# Altium integrated library Actel RTAX-S-SL.IntLib: 132 symbols (part 4 of 41)
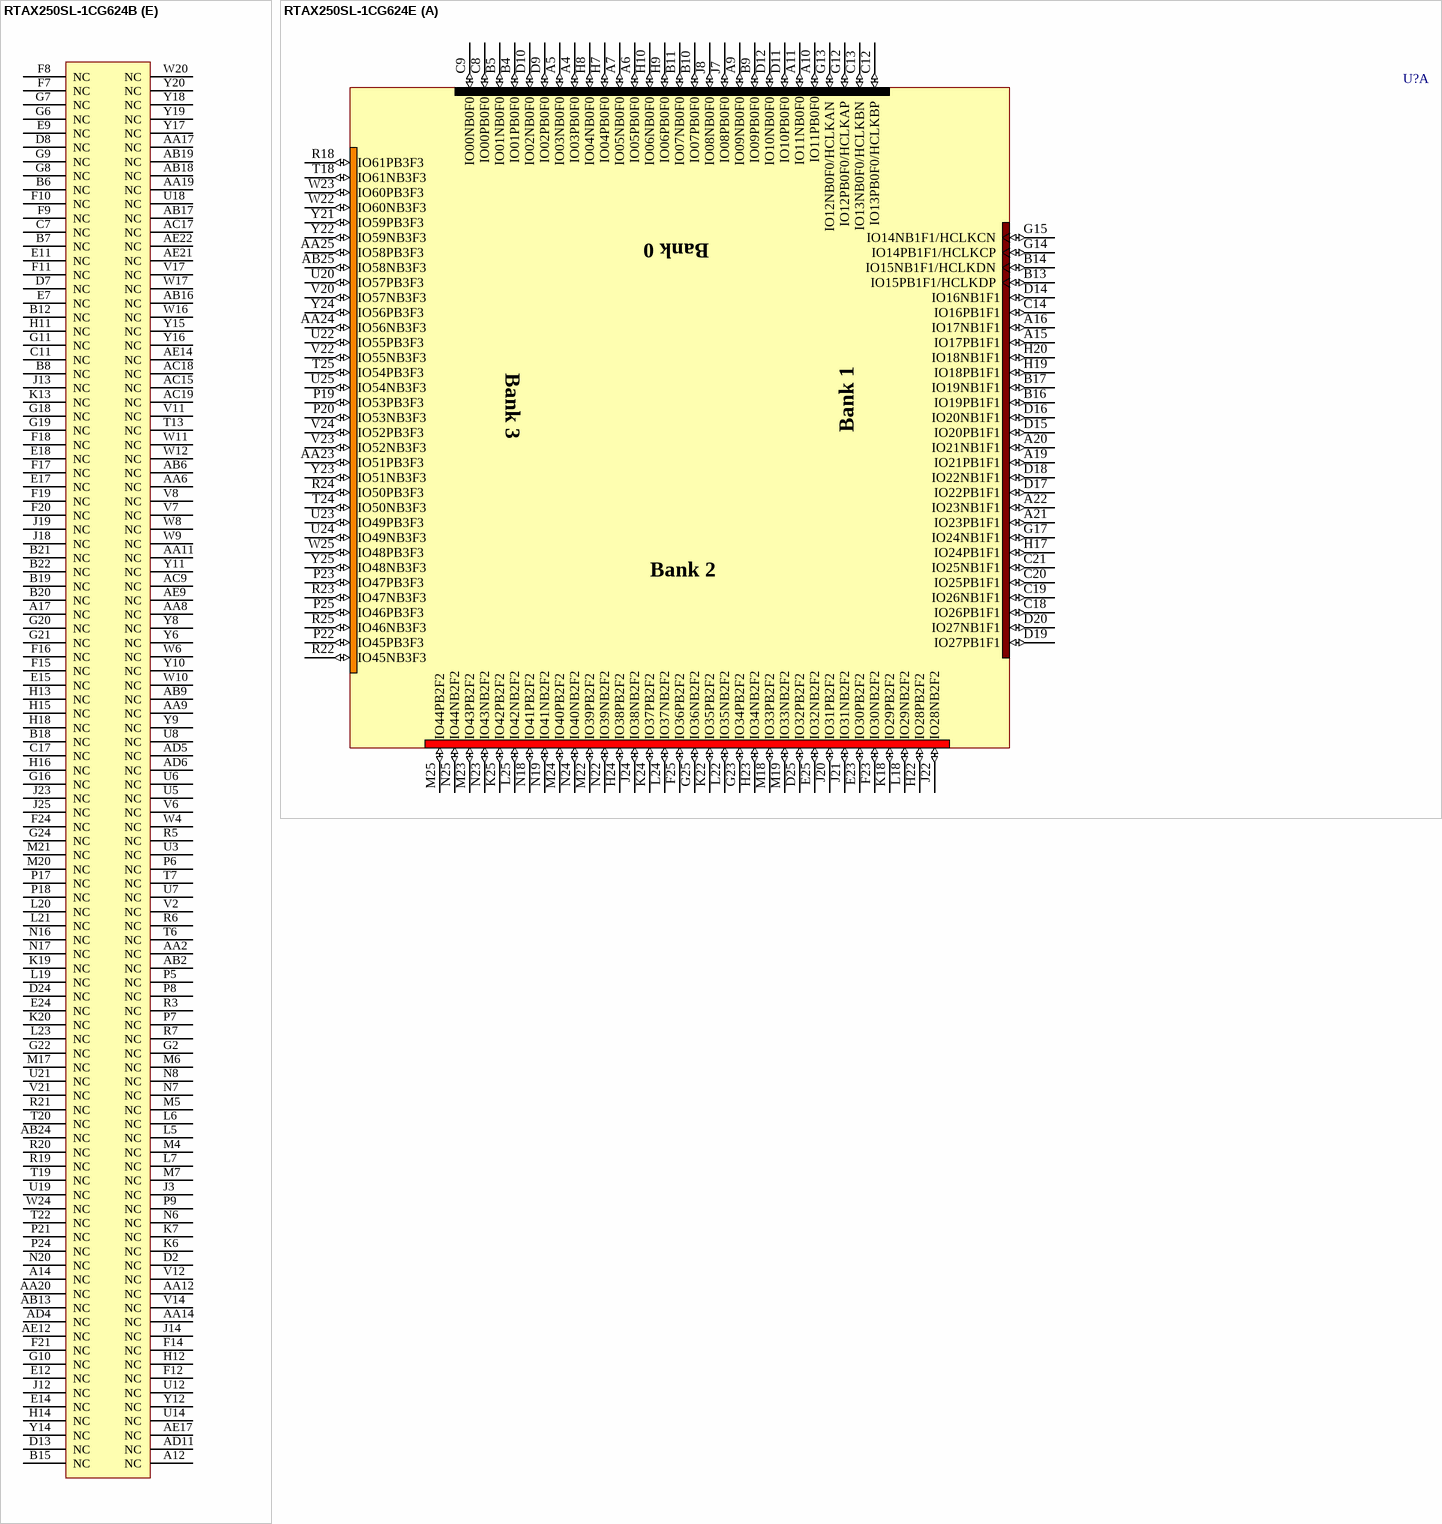
[diagram p382: symbols RTAX250SL-1CG624B to RTAX250SL-1CG624E]

## RTAX250SL-1CG624B
designator U?
RTAX-SL RadTolerant FPGA, 250K Equivalent System Gates, Low-Power, 624-Pin CCGA, Speed Grade 1, MIL-STD-883 Class B; Published: 11-Dec-2009; DatasheetVersion: v5.4, May-2009; PackageVersion: ver11.2, Nov-2009; PackageReference: CG624; Publisher: Altium Limited; PackageDescription: 624-Pin Ceramic Column Grid Array 1.27 mm Pitch; Code_JEDEC: MO-158-BE-01; ComponentLink1Description: RTAX-S/SL RadTolerant Datasheet; ComponentLink1URL: http://www.actel.com/documents/RTAXS_DS.pdf; ComponentLink2Description: Package Mechanical Drawings; ComponentLink2URL: http://www.actel.com/documents/PckgMechDrwngs.pdf; ComponentLink3Description: RTAX-S/SL RadTolerant Documents; ComponentLink3URL: http://www.actel.com/products/milaero/rtaxs/docs.aspx; ComponentLink4Description: Actel.com Home; ComponentLink4URL: http://www.actel.com/
footprint CG624 (CGA, 624-Leads, Body 32.5x32.5mm, Pitch 1.27mm)
part A pins: A4 IO03PB0F0 (io), A5 IO03NB0F0 (io), A6 IO05PB0F0 (io), A7 IO05NB0F0 (io), A9 IO09NB0F0 (io), A10 IO11PB0F0 (io), A11 IO11NB0F0 (io), A15 IO17PB1F1 (io), A16 IO17NB1F1 (io), A19 IO21PB1F1 (io), A20 IO21NB1F1 (io), A21 IO23PB1F1 (io), A22 IO23NB1F1 (io), AA23 IO51PB3F3 (io), AA24 IO56NB3F3 (io), AA25 IO58PB3F3 (io), AB25 IO58NB3F3 (io), B4 IO01PB0F0 (io), B5 IO01NB0F0 (io), B9 IO09PB0F0 (io), B10 IO07PB0F0 (io), B11 IO07NB0F0 (io), B13 IO15PB1F1/HCLKDP (io), B14 IO15NB1F1/HCLKDN (io), B16 IO19PB1F1 (io), B17 IO19NB1F1 (io), C8 IO00PB0F0 (io), C9 IO00NB0F0 (io), C12 IO13PB0F0/HCLKBP (io), C13 IO13NB0F0/HCLKBN (io), C14 IO16PB1F1 (io), C18 IO26PB1F1 (io), C19 IO26NB1F1 (io), C20 IO25PB1F1 (io), C21 IO25NB1F1 (io), D9 IO02PB0F0 (io), D10 IO02NB0F0 (io), D11 IO10PB0F0 (io), D12 IO10NB0F0 (io), D14 IO16NB1F1 (io), D15 IO20PB1F1 (io), D16 IO20NB1F1 (io), D17 IO22PB1F1 (io), D18 IO22NB1F1 (io), D19 IO27PB1F1 (io), D20 IO27NB1F1 (io), D25 IO32PB2F2 (io), E23 IO30PB2F2 (io), E25 IO32NB2F2 (io), F23 IO30NB2F2 (io), F25 IO36PB2F2 (io), G12 IO12PB0F0/HCLKAP (io), G13 IO12NB0F0/HCLKAN (io), G14 IO14PB1F1/HCLKCP (io), G15 IO14NB1F1/HCLKCN (io), G17 IO24NB1F1 (io), G23 IO34PB2F2 (io), G25 IO36NB2F2 (io), H7 IO04PB0F0 (io), H8 IO04NB0F0 (io), H9 IO06PB0F0 (io), H10 IO06NB0F0 (io), H17 IO24PB1F1 (io), H19 IO18PB1F1 (io), H20 IO18NB1F1 (io), H22 IO28PB2F2 (io), H23 IO34NB2F2 (io), H24 IO38PB2F2 (io), J7 IO08PB0F0 (io), J8 IO08NB0F0 (io), J20 IO31PB2F2 (io), J21 IO31NB2F2 (io), J22 IO28NB2F2 (io), J24 IO38NB2F2 (io), K18 IO29PB2F2 (io), K22 IO35PB2F2 (io), K24 IO37PB2F2 (io), K25 IO42PB2F2 (io), L18 IO29NB2F2 (io), L22 IO35NB2F2 (io), L24 IO37NB2F2 (io), L25 IO42NB2F2 (io), M18 IO33PB2F2 (io), M19 IO33NB2F2 (io), M22 IO39PB2F2 (io), M23 IO43PB2F2 (io), M24 IO40PB2F2 (io), M25 IO44PB2F2 (io), N18 IO41PB2F2 (io), N19 IO41NB2F2 (io), N22 IO39NB2F2 (io), N23 IO43NB2F2 (io), N24 IO40NB2F2 (io), N25 IO44NB2F2 (io), P19 IO53PB3F3 (io), P20 IO53NB3F3 (io), P22 IO45PB3F3 (io), P23 IO47PB3F3 (io), P25 IO46PB3F3 (io), R18 IO61PB3F3 (io), R22 IO45NB3F3 (io), R23 IO47NB3F3 (io), R24 IO50PB3F3 (io), R25 IO46NB3F3 (io), T18 IO61NB3F3 (io), T24 IO50NB3F3 (io), T25 IO54PB3F3 (io), U20 IO57PB3F3 (io), U22 IO55PB3F3 (io), U23 IO49PB3F3 (io), U24 IO49NB3F3 (io), U25 IO54NB3F3 (io), V20 IO57NB3F3 (io), V22 IO55NB3F3 (io), V23 IO52NB3F3 (io), V24 IO52PB3F3 (io), W22 IO60NB3F3 (io), W23 IO60PB3F3 (io), W25 IO48PB3F3 (io), Y21 IO59PB3F3 (io), Y22 IO59NB3F3 (io), Y23 IO51NB3F3 (io), Y24 IO56PB3F3 (io), Y25 IO48NB3F3 (io)
part B pins: AA1 IO92NB6F6 (io), AA3 IO90PB6F6 (io), AB1 IO92PB6F6 (io), AB7 IO89NB5F5 (io), AB8 IO84NB5F5 (io), AB10 IO82NB5F5 (io), AB11 IO82PB5F5 (io), AB14 IO70NB4F4 (io), AB15 IO70PB4F4 (io), AC5 IO87NB5F5 (io), AC6 IO87PB5F5 (io), AC7 IO89PB5F5 (io), AC8 IO84PB5F5 (io), AC12 IO77NB5F5/CLKHN (io), AC13 IO75NB4F4/CLKFN (io), AC14 IO66PB4F4 (io), AC20 IO65NB4F4 (io), AC21 IO65PB4F4 (io), AD7 IO81NB5F5 (io), AD8 IO81PB5F5 (io), AD9 IO79NB5F5 (io), AD10 IO79PB5F5 (io), AD12 IO77PB5F5/CLKHP (io), AD13 IO75PB4F4/CLKFP (io), AD14 IO66NB4F4 (io), AD15 IO68NB4F4 (io), AD16 IO68PB4F4 (io), AD17 IO71NB4F4 (io), AD18 IO71PB4F4 (io), AD19 IO69NB4F4 (io), AD20 IO69PB4F4 (io), AD21 IO67NB4F4 (io), AD22 IO67PB4F4 (io), AE4 IO85NB5F5 (io), AE5 IO85PB5F5 (io), AE6 IO83NB5F5 (io), AE7 IO83PB5F5 (io), AE10 IO78NB5F5 (io), AE11 IO78PB5F5 (io), AE15 IO73NB4F4 (io), AE16 IO73PB4F4 (io), AE19 IO63NB4F4 (io), AE20 IO63PB4F4 (io), D1 IO120NB7F7 (io), E1 IO120PB7F7 (io), E2 IO118NB7F7 (io), E3 IO121PB7F7 (io), F1 IO114NB7F7 (io), F2 IO118PB7F7 (io), F3 IO121NB7F7 (io), G1 IO114PB7F7 (io), G3 IO122PB7F7 (io), G4 IO122NB7F7 (io), H2 IO116PB7F7 (io), H3 IO116NB7F7 (io), H4 IO107NB7F7 (io), H5 IO123NB7F7 (io), H6 IO123PB7F7 (io), J1 IO110PB7F7 (io), J2 IO110NB7F7 (io), J4 IO107PB7F7 (io), J5 IO115PB7F7 (io), J6 IO115NB7F7 (io), K1 IO108NB7F7 (io), K2 IO112NB7F7 (io), K4 IO117NB7F7 (io), K8 IO113NB7F7 (io), L1 IO108PB7F7 (io), L2 IO112PB7F7 (io), L3 IO109NB7F7 (io), L4 IO117PB7F7 (io), L8 IO113PB7F7 (io), M1 IO106NB6F6 (io), M2 IO105NB6F6 (io), M3 IO109PB7F7 (io), M8 IO119PB7F7 (io), M9 IO119NB7F7 (io), N1 IO106PB6F6 (io), N2 IO105PB6F6 (io), N3 IO99NB6F6 (io), N4 IO101NB6F6 (io), N9 IO111PB7F7 (io), N10 IO111NB7F7 (io), P1 IO104NB6F6 (io), P2 IO102NB6F6 (io), P3 IO99PB6F6 (io), P4 IO101PB6F6 (io), R1 IO104PB6F6 (io), R2 IO102PB6F6 (io), R4 IO95NB6F6 (io), R8 IO103NB6F6 (io), T1 IO100NB6F6 (io), T2 IO98NB6F6 (io), T4 IO95PB6F6 (io), T8 IO103PB6F6 (io), U1 IO100PB6F6 (io), U2 IO98PB6F6 (io), U4 IO91NB6F6 (io), U13 IO86NB5F5 (io), V3 IO94NB6F6 (io), V4 IO91PB6F6 (io), V9 IO80NB5F5 (io), V10 IO80PB5F5 (io), V13 IO86PB5F5 (io), V15 IO72NB4F4 (io), V16 IO72PB4F4 (io), V18 IO64PB4F4 (io), V19 IO62NB4F4 (io), W1 IO96NB6F6 (io), W2 IO93NB6F6 (io), W3 IO94PB6F6 (io), W5 IO97PB6F6 (io), W7 IO88PB5F5 (io), W13 IO76NB5F5/CLKGN (io), W14 IO74NB4F4/CLKEN (io), W15 IO74PB4F4/CLKEP (io), W18 IO64NB4F4 (io), W19 IO62PB4F4 (io), Y1 IO96PB6F6 (io), Y2 IO93PB6F6 (io), Y3 IO90NB6F6 (io), Y5 IO97NB6F6 (io), Y7 IO88NB5F5 (io), Y13 IO76PB5F5/CLKGP (io)
part C pins: A3 VCCIB0 (power), A13 PRB (out), A23 VCCIB1 (power), AA4 VCCIB6 (power), AA7 VCCDA (power), AA13 VCCDA (power), AA15 VCCDA (power), AA22 VCCIB3 (power), AB3 VCCIB6 (power), AB5 VCCIB5 (power), AB12 PRC (out), AB20 VCCA (power), AB21 VCCIB4 (power), AB23 VCCIB3 (power), AC1 VCCIB6 (power), AC2 VCCIB6 (power), AC4 VCCIB5 (power), AC11 VCCDA (power), AC22 VCCIB4 (power), AC24 VCCIB3 (power), AC25 VCCIB3 (power), AD3 VCCIB5 (power), AD23 VCCIB4 (power), AE3 VCCIB5 (power), AE13 PRD (out), AE23 VCCIB4 (power), B3 VCCIB0 (power), B23 VCCIB1 (power), C1 VCCIB7 (power), C2 VCCIB7 (power), C4 VCCIB0 (power), C5 TDI (in), C6 VCCDA (power), C15 VCCDA (power), C22 VCCIB1 (power), C24 VCCIB2 (power), C25 VCCIB2 (power), D3 VCCIB7 (power), D5 VCCIB0 (power), D6 TMS (in), D21 VCCIB1 (power), D23 VCCIB2 (power), E4 VCCIB7 (power), E6 ~{TRST} (in), E13 VCCDA (power), E19 VCCDA (power), E20 VPUMP (power), E22 VCCIB2 (power), F4 VCCA (power), F5 TCK (in), F6 TDO (hiz), F13 PRA (out), F22 VCCA (power), G5 VCCDA (power), J9 VCCA (power), J10 VCCIB0 (power), J11 VCCIB0 (power), J15 VCCIB1 (power), J16 VCCIB1 (power), J17 VCCA (power), K9 VCCIB7 (power), K10 VCCA (power), K11 VCCA (power), K12 VCCIB0 (power), K14 VCCIB1 (power), K15 VCCA (power), K16 VCCA (power), K17 VCCIB2 (power), L9 VCCIB7 (power), L10 VCCA (power), L16 VCCA (power), L17 VCCIB2 (power), M10 VCCIB7 (power), M16 VCCIB2 (power), N5 VCCDA (power), N21 VCCDA (power), P10 VCCIB6 (power), P16 VCCIB3 (power), R9 VCCIB6 (power), R10 VCCA (power), R16 VCCA (power), R17 VCCIB3 (power), T9 VCCIB6 (power), T10 VCCA (power), T11 VCCA (power), T12 VCCIB5 (power), T14 VCCIB4 (power), T15 VCCA (power), T16 VCCA (power), T17 VCCIB3 (power), U9 VCCA (power), U10 VCCIB5 (power), U11 VCCIB5 (power), U15 VCCIB4 (power), U16 VCCIB4 (power), U17 VCCA (power), W21 VCCDA (power), Y4 VCCA (power)
part D pins: A2 GND (power), A8 GND (power), A18 GND (power), A24 GND (power), A25 GND (power), AA5 GND (power), AA10 GND (power), AA16 GND (power), AA18 GND (power), AA21 GND (power), AB4 GND (power), AB22 GND (power), AC3 GND (power), AC10 GND (power), AC16 GND (power), AC23 GND (power), AD1 GND (power), AD2 GND (power), AD24 GND (power), AD25 GND (power), AE1 GND (power), AE2 GND (power), AE8 GND (power), AE18 GND (power), AE24 GND (power), AE25 GND (power), B1 GND (power), B2 GND (power), B24 GND (power), B25 GND (power), C3 GND (power), C10 GND (power), C16 GND (power), C23 GND (power), D4 GND (power), D22 GND (power), E5 GND (power), E8 GND (power), E10 GND (power), E16 GND (power), E21 GND (power), H1 GND (power), H21 GND (power), H25 GND (power), K3 GND (power), K5 GND (power), K21 GND (power), K23 GND (power), L11 GND (power), L12 GND (power), L13 GND (power), L14 GND (power), L15 GND (power), M11 GND (power), M12 GND (power), M13 GND (power), M14 GND (power), M15 GND (power), N11 GND (power), N12 GND (power), N13 GND (power), N14 GND (power), N15 GND (power), P11 GND (power), P12 GND (power), P13 GND (power), P14 GND (power), P15 GND (power), R11 GND (power), R12 GND (power), R13 GND (power), R14 GND (power), R15 GND (power), T3 GND (power), T5 GND (power), T21 GND (power), T23 GND (power), V1 GND (power), V5 GND (power), V25 GND (power)
part E pins: A12 NC, A14 NC, A17 NC, AA2 NC, AA6 NC, AA8 NC, AA9 NC, AA11 NC, AA12 NC, AA14 NC, AA17 NC, AA19 NC, AA20 NC, AB2 NC, AB6 NC, AB9 NC, AB13 NC, AB16 NC, AB17 NC, AB18 NC, AB19 NC, AB24 NC, AC9 NC, AC15 NC, AC17 NC, AC18 NC, AC19 NC, AD4 NC, AD5 NC, AD6 NC, AD11 NC, AE9 NC, AE12 NC, AE14 NC, AE17 NC, AE21 NC, AE22 NC, B6 NC, B7 NC, B8 NC, B12 NC, B15 NC, B18 NC, B19 NC, B20 NC, B21 NC, B22 NC, C7 NC, C11 NC, C17 NC, D2 NC, D7 NC, D8 NC, D13 NC, D24 NC, E7 NC, E9 NC, E11 NC, E12 NC, E14 NC, E15 NC, E17 NC, E18 NC, E24 NC, F7 NC, F8 NC, F9 NC, F10 NC, F11 NC, F12 NC, F14 NC, F15 NC, F16 NC, F17 NC, F18 NC, F19 NC, F20 NC, F21 NC, F24 NC, G2 NC, G6 NC, G7 NC, G8 NC, G9 NC, G10 NC, G11 NC, G16 NC, G18 NC, G19 NC, G20 NC, G21 NC, G22 NC, G24 NC, H11 NC, H12 NC, H13 NC, H14 NC, H15 NC, H16 NC, H18 NC, J3 NC, J12 NC, J13 NC, J14 NC, J18 NC, J19 NC, J23 NC, J25 NC, K6 NC, K7 NC, K13 NC, K19 NC, K20 NC, L5 NC, L6 NC, L7 NC, L19 NC, L20 NC, L21 NC, L23 NC, M4 NC, M5 NC, M6 NC, M7 NC, M17 NC, M20 NC, M21 NC, N6 NC, N7 NC, N8 NC, N16 NC, N17 NC, N20 NC, P5 NC, P6 NC, P7 NC, P8 NC, P9 NC, P17 NC, P18 NC, P21 NC, P24 NC, R3 NC, R5 NC, R6 NC, R7 NC, R19 NC, R20 NC, R21 NC, T6 NC, T7 NC, T13 NC, T19 NC, T20 NC, T22 NC, U3 NC, U5 NC, U6 NC, U7 NC, U8 NC, U12 NC, U14 NC, U18 NC, U19 NC, U21 NC, V2 NC, V6 NC, V7 NC, V8 NC, V11 NC, V12 NC, V14 NC, V17 NC, V21 NC, W4 NC, W6 NC, W8 NC, W9 NC, W10 NC, W11 NC, W12 NC, W16 NC, W17 NC, W20 NC, W24 NC, Y6 NC, Y8 NC, Y9 NC, Y10 NC, Y11 NC, Y12 NC, Y14 NC, Y15 NC, Y16 NC, Y17 NC, Y18 NC, Y19 NC, Y20 NC
part A text: Bank 0; Bank 3; Bank 1; Bank 2
part B text: Bank 4; Bank 7; Bank 5; Bank 6

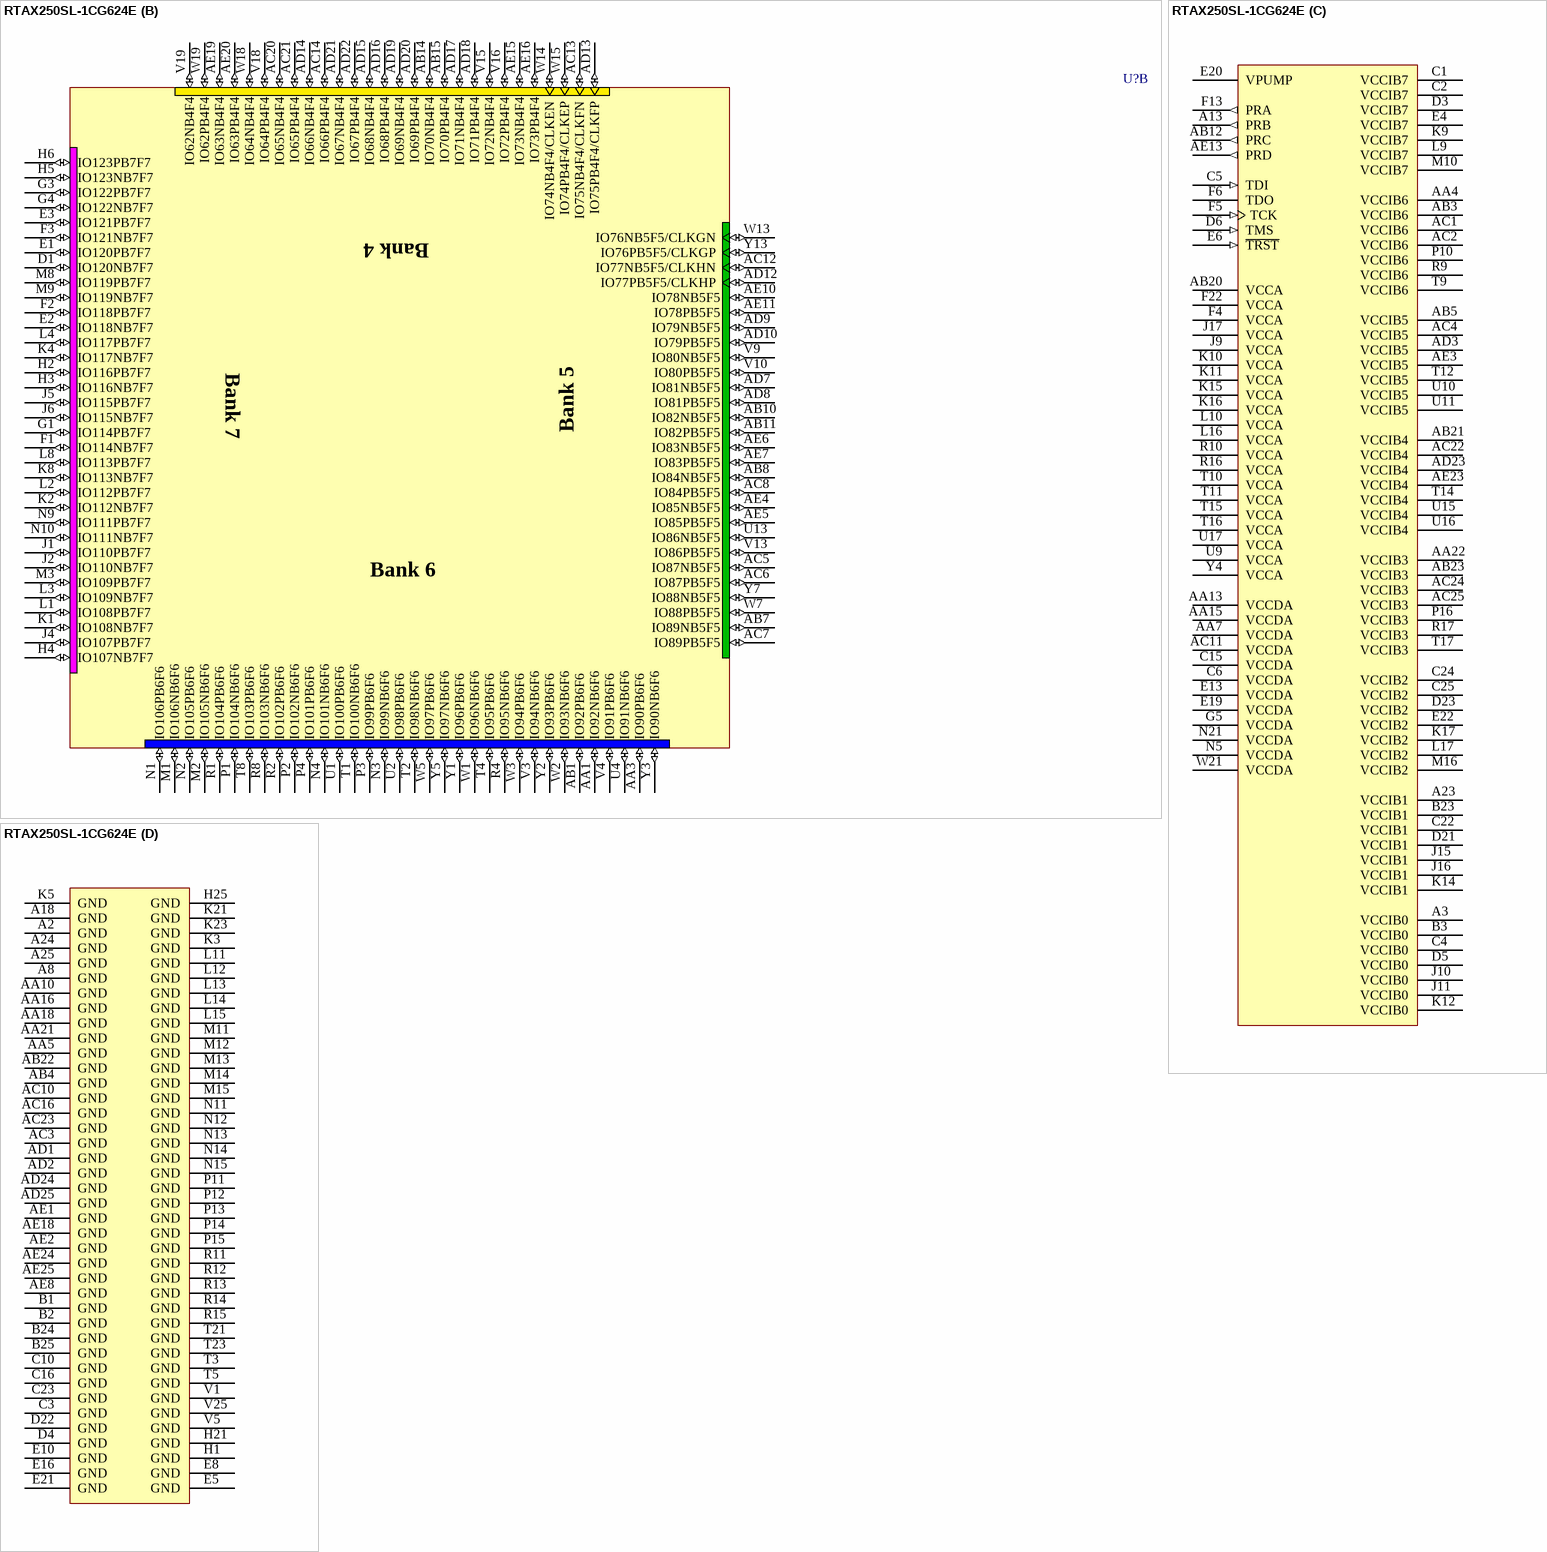
[diagram p35: symbol RTAX250SL-1CG624E]

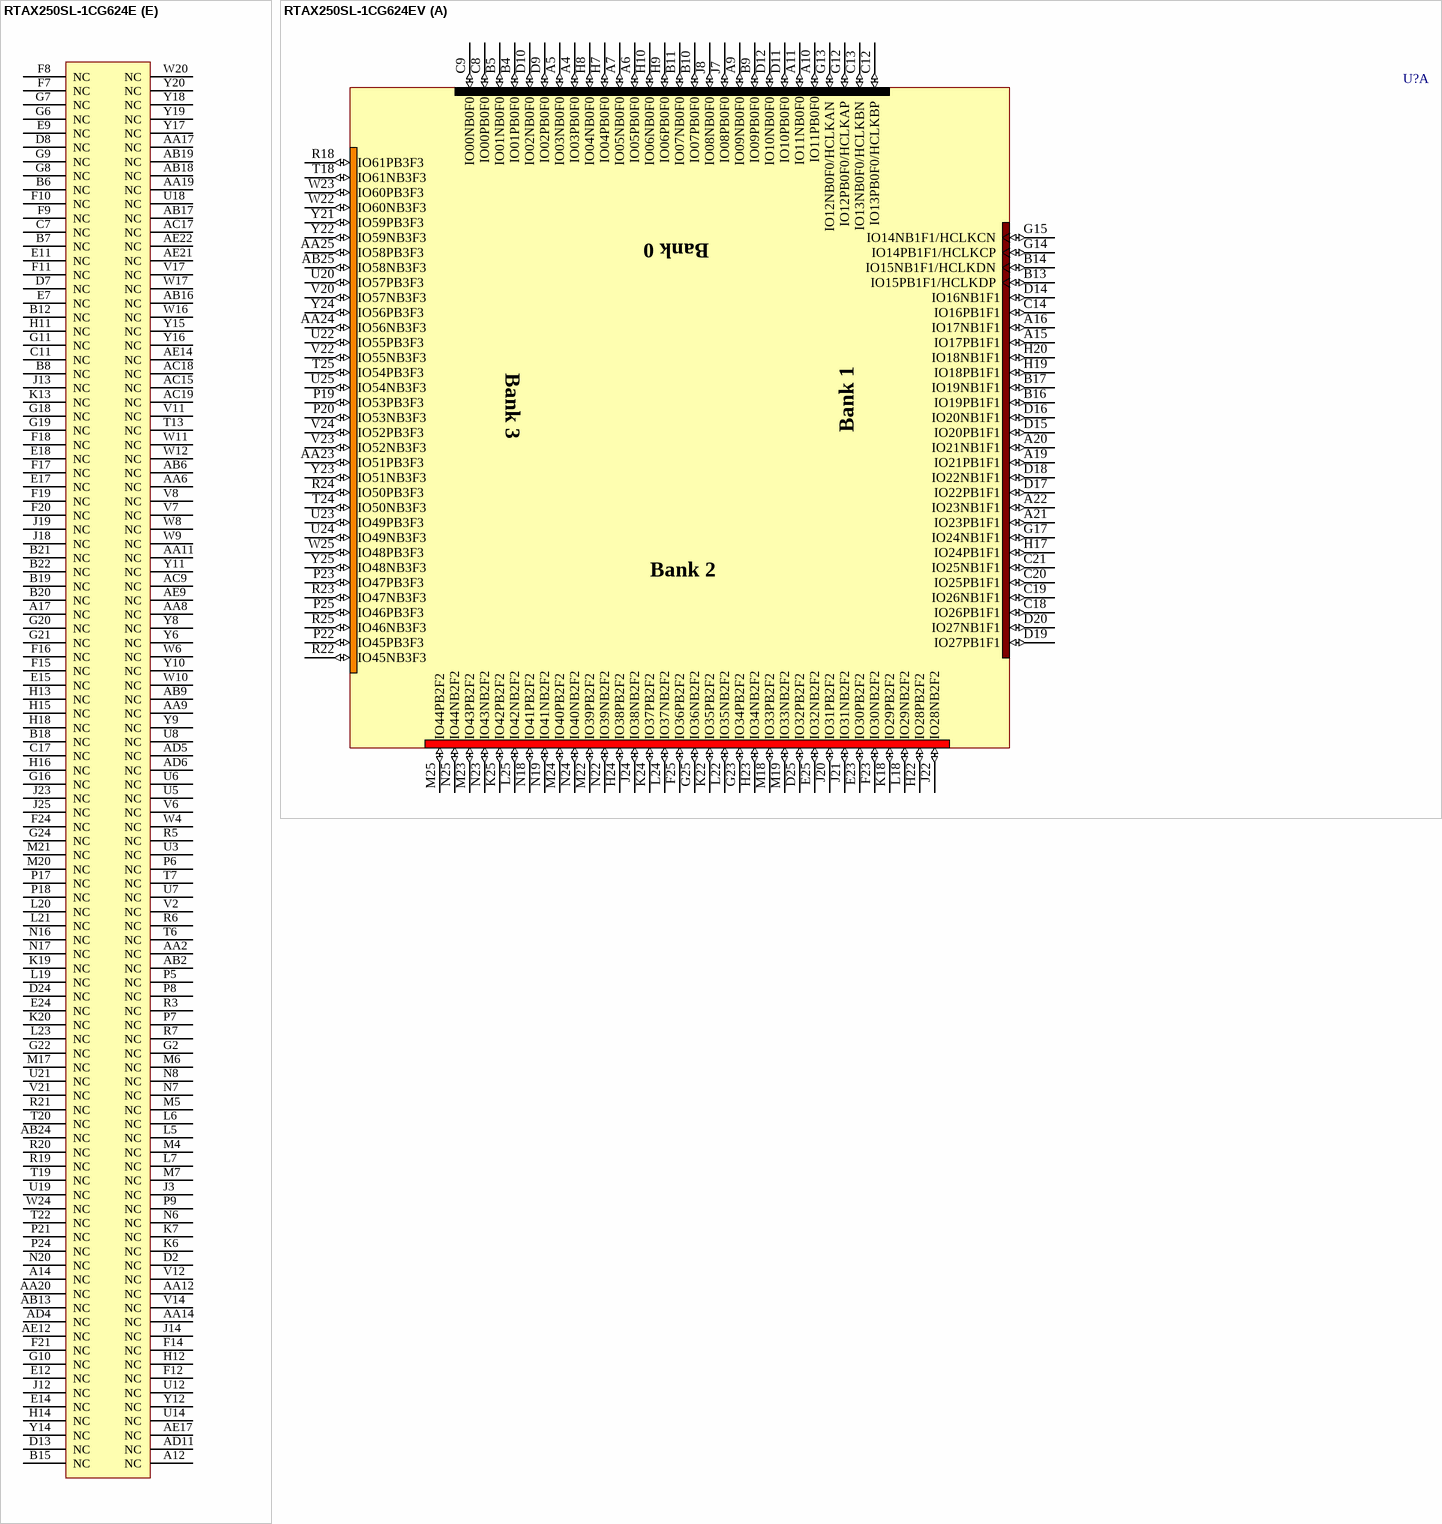
[diagram p36: symbols RTAX250SL-1CG624E to RTAX250SL-1CG624EV]

## RTAX250SL-1CG624E
designator U?
RTAX-SL RadTolerant FPGA, 250K Equivalent System Gates, Low-Power, 624-Pin CCGA, Speed Grade 1, E-Flow (Space Level Flow); Published: 11-Dec-2009; DatasheetVersion: v5.4, May-2009; PackageVersion: ver11.2, Nov-2009; PackageReference: CG624; Publisher: Altium Limited; PackageDescription: 624-Pin Ceramic Column Grid Array 1.27 mm Pitch; Code_JEDEC: MO-158-BE-01; ComponentLink1Description: RTAX-S/SL RadTolerant Datasheet; ComponentLink1URL: http://www.actel.com/documents/RTAXS_DS.pdf; ComponentLink2Description: Package Mechanical Drawings; ComponentLink2URL: http://www.actel.com/documents/PckgMechDrwngs.pdf; ComponentLink3Description: RTAX-S/SL RadTolerant Documents; ComponentLink3URL: http://www.actel.com/products/milaero/rtaxs/docs.aspx; ComponentLink4Description: Actel.com Home; ComponentLink4URL: http://www.actel.com/
footprint CG624 (CGA, 624-Leads, Body 32.5x32.5mm, Pitch 1.27mm)
part A pins: A4 IO03PB0F0 (io), A5 IO03NB0F0 (io), A6 IO05PB0F0 (io), A7 IO05NB0F0 (io), A9 IO09NB0F0 (io), A10 IO11PB0F0 (io), A11 IO11NB0F0 (io), A15 IO17PB1F1 (io), A16 IO17NB1F1 (io), A19 IO21PB1F1 (io), A20 IO21NB1F1 (io), A21 IO23PB1F1 (io), A22 IO23NB1F1 (io), AA23 IO51PB3F3 (io), AA24 IO56NB3F3 (io), AA25 IO58PB3F3 (io), AB25 IO58NB3F3 (io), B4 IO01PB0F0 (io), B5 IO01NB0F0 (io), B9 IO09PB0F0 (io), B10 IO07PB0F0 (io), B11 IO07NB0F0 (io), B13 IO15PB1F1/HCLKDP (io), B14 IO15NB1F1/HCLKDN (io), B16 IO19PB1F1 (io), B17 IO19NB1F1 (io), C8 IO00PB0F0 (io), C9 IO00NB0F0 (io), C12 IO13PB0F0/HCLKBP (io), C13 IO13NB0F0/HCLKBN (io), C14 IO16PB1F1 (io), C18 IO26PB1F1 (io), C19 IO26NB1F1 (io), C20 IO25PB1F1 (io), C21 IO25NB1F1 (io), D9 IO02PB0F0 (io), D10 IO02NB0F0 (io), D11 IO10PB0F0 (io), D12 IO10NB0F0 (io), D14 IO16NB1F1 (io), D15 IO20PB1F1 (io), D16 IO20NB1F1 (io), D17 IO22PB1F1 (io), D18 IO22NB1F1 (io), D19 IO27PB1F1 (io), D20 IO27NB1F1 (io), D25 IO32PB2F2 (io), E23 IO30PB2F2 (io), E25 IO32NB2F2 (io), F23 IO30NB2F2 (io), F25 IO36PB2F2 (io), G12 IO12PB0F0/HCLKAP (io), G13 IO12NB0F0/HCLKAN (io), G14 IO14PB1F1/HCLKCP (io), G15 IO14NB1F1/HCLKCN (io), G17 IO24NB1F1 (io), G23 IO34PB2F2 (io), G25 IO36NB2F2 (io), H7 IO04PB0F0 (io), H8 IO04NB0F0 (io), H9 IO06PB0F0 (io), H10 IO06NB0F0 (io), H17 IO24PB1F1 (io), H19 IO18PB1F1 (io), H20 IO18NB1F1 (io), H22 IO28PB2F2 (io), H23 IO34NB2F2 (io), H24 IO38PB2F2 (io), J7 IO08PB0F0 (io), J8 IO08NB0F0 (io), J20 IO31PB2F2 (io), J21 IO31NB2F2 (io), J22 IO28NB2F2 (io), J24 IO38NB2F2 (io), K18 IO29PB2F2 (io), K22 IO35PB2F2 (io), K24 IO37PB2F2 (io), K25 IO42PB2F2 (io), L18 IO29NB2F2 (io), L22 IO35NB2F2 (io), L24 IO37NB2F2 (io), L25 IO42NB2F2 (io), M18 IO33PB2F2 (io), M19 IO33NB2F2 (io), M22 IO39PB2F2 (io), M23 IO43PB2F2 (io), M24 IO40PB2F2 (io), M25 IO44PB2F2 (io), N18 IO41PB2F2 (io), N19 IO41NB2F2 (io), N22 IO39NB2F2 (io), N23 IO43NB2F2 (io), N24 IO40NB2F2 (io), N25 IO44NB2F2 (io), P19 IO53PB3F3 (io), P20 IO53NB3F3 (io), P22 IO45PB3F3 (io), P23 IO47PB3F3 (io), P25 IO46PB3F3 (io), R18 IO61PB3F3 (io), R22 IO45NB3F3 (io), R23 IO47NB3F3 (io), R24 IO50PB3F3 (io), R25 IO46NB3F3 (io), T18 IO61NB3F3 (io), T24 IO50NB3F3 (io), T25 IO54PB3F3 (io), U20 IO57PB3F3 (io), U22 IO55PB3F3 (io), U23 IO49PB3F3 (io), U24 IO49NB3F3 (io), U25 IO54NB3F3 (io), V20 IO57NB3F3 (io), V22 IO55NB3F3 (io), V23 IO52NB3F3 (io), V24 IO52PB3F3 (io), W22 IO60NB3F3 (io), W23 IO60PB3F3 (io), W25 IO48PB3F3 (io), Y21 IO59PB3F3 (io), Y22 IO59NB3F3 (io), Y23 IO51NB3F3 (io), Y24 IO56PB3F3 (io), Y25 IO48NB3F3 (io)
part B pins: AA1 IO92NB6F6 (io), AA3 IO90PB6F6 (io), AB1 IO92PB6F6 (io), AB7 IO89NB5F5 (io), AB8 IO84NB5F5 (io), AB10 IO82NB5F5 (io), AB11 IO82PB5F5 (io), AB14 IO70NB4F4 (io), AB15 IO70PB4F4 (io), AC5 IO87NB5F5 (io), AC6 IO87PB5F5 (io), AC7 IO89PB5F5 (io), AC8 IO84PB5F5 (io), AC12 IO77NB5F5/CLKHN (io), AC13 IO75NB4F4/CLKFN (io), AC14 IO66PB4F4 (io), AC20 IO65NB4F4 (io), AC21 IO65PB4F4 (io), AD7 IO81NB5F5 (io), AD8 IO81PB5F5 (io), AD9 IO79NB5F5 (io), AD10 IO79PB5F5 (io), AD12 IO77PB5F5/CLKHP (io), AD13 IO75PB4F4/CLKFP (io), AD14 IO66NB4F4 (io), AD15 IO68NB4F4 (io), AD16 IO68PB4F4 (io), AD17 IO71NB4F4 (io), AD18 IO71PB4F4 (io), AD19 IO69NB4F4 (io), AD20 IO69PB4F4 (io), AD21 IO67NB4F4 (io), AD22 IO67PB4F4 (io), AE4 IO85NB5F5 (io), AE5 IO85PB5F5 (io), AE6 IO83NB5F5 (io), AE7 IO83PB5F5 (io), AE10 IO78NB5F5 (io), AE11 IO78PB5F5 (io), AE15 IO73NB4F4 (io), AE16 IO73PB4F4 (io), AE19 IO63NB4F4 (io), AE20 IO63PB4F4 (io), D1 IO120NB7F7 (io), E1 IO120PB7F7 (io), E2 IO118NB7F7 (io), E3 IO121PB7F7 (io), F1 IO114NB7F7 (io), F2 IO118PB7F7 (io), F3 IO121NB7F7 (io), G1 IO114PB7F7 (io), G3 IO122PB7F7 (io), G4 IO122NB7F7 (io), H2 IO116PB7F7 (io), H3 IO116NB7F7 (io), H4 IO107NB7F7 (io), H5 IO123NB7F7 (io), H6 IO123PB7F7 (io), J1 IO110PB7F7 (io), J2 IO110NB7F7 (io), J4 IO107PB7F7 (io), J5 IO115PB7F7 (io), J6 IO115NB7F7 (io), K1 IO108NB7F7 (io), K2 IO112NB7F7 (io), K4 IO117NB7F7 (io), K8 IO113NB7F7 (io), L1 IO108PB7F7 (io), L2 IO112PB7F7 (io), L3 IO109NB7F7 (io), L4 IO117PB7F7 (io), L8 IO113PB7F7 (io), M1 IO106NB6F6 (io), M2 IO105NB6F6 (io), M3 IO109PB7F7 (io), M8 IO119PB7F7 (io), M9 IO119NB7F7 (io), N1 IO106PB6F6 (io), N2 IO105PB6F6 (io), N3 IO99NB6F6 (io), N4 IO101NB6F6 (io), N9 IO111PB7F7 (io), N10 IO111NB7F7 (io), P1 IO104NB6F6 (io), P2 IO102NB6F6 (io), P3 IO99PB6F6 (io), P4 IO101PB6F6 (io), R1 IO104PB6F6 (io), R2 IO102PB6F6 (io), R4 IO95NB6F6 (io), R8 IO103NB6F6 (io), T1 IO100NB6F6 (io), T2 IO98NB6F6 (io), T4 IO95PB6F6 (io), T8 IO103PB6F6 (io), U1 IO100PB6F6 (io), U2 IO98PB6F6 (io), U4 IO91NB6F6 (io), U13 IO86NB5F5 (io), V3 IO94NB6F6 (io), V4 IO91PB6F6 (io), V9 IO80NB5F5 (io), V10 IO80PB5F5 (io), V13 IO86PB5F5 (io), V15 IO72NB4F4 (io), V16 IO72PB4F4 (io), V18 IO64PB4F4 (io), V19 IO62NB4F4 (io), W1 IO96NB6F6 (io), W2 IO93NB6F6 (io), W3 IO94PB6F6 (io), W5 IO97PB6F6 (io), W7 IO88PB5F5 (io), W13 IO76NB5F5/CLKGN (io), W14 IO74NB4F4/CLKEN (io), W15 IO74PB4F4/CLKEP (io), W18 IO64NB4F4 (io), W19 IO62PB4F4 (io), Y1 IO96PB6F6 (io), Y2 IO93PB6F6 (io), Y3 IO90NB6F6 (io), Y5 IO97NB6F6 (io), Y7 IO88NB5F5 (io), Y13 IO76PB5F5/CLKGP (io)
part C pins: A3 VCCIB0 (power), A13 PRB (out), A23 VCCIB1 (power), AA4 VCCIB6 (power), AA7 VCCDA (power), AA13 VCCDA (power), AA15 VCCDA (power), AA22 VCCIB3 (power), AB3 VCCIB6 (power), AB5 VCCIB5 (power), AB12 PRC (out), AB20 VCCA (power), AB21 VCCIB4 (power), AB23 VCCIB3 (power), AC1 VCCIB6 (power), AC2 VCCIB6 (power), AC4 VCCIB5 (power), AC11 VCCDA (power), AC22 VCCIB4 (power), AC24 VCCIB3 (power), AC25 VCCIB3 (power), AD3 VCCIB5 (power), AD23 VCCIB4 (power), AE3 VCCIB5 (power), AE13 PRD (out), AE23 VCCIB4 (power), B3 VCCIB0 (power), B23 VCCIB1 (power), C1 VCCIB7 (power), C2 VCCIB7 (power), C4 VCCIB0 (power), C5 TDI (in), C6 VCCDA (power), C15 VCCDA (power), C22 VCCIB1 (power), C24 VCCIB2 (power), C25 VCCIB2 (power), D3 VCCIB7 (power), D5 VCCIB0 (power), D6 TMS (in), D21 VCCIB1 (power), D23 VCCIB2 (power), E4 VCCIB7 (power), E6 ~{TRST} (in), E13 VCCDA (power), E19 VCCDA (power), E20 VPUMP (power), E22 VCCIB2 (power), F4 VCCA (power), F5 TCK (in), F6 TDO (hiz), F13 PRA (out), F22 VCCA (power), G5 VCCDA (power), J9 VCCA (power), J10 VCCIB0 (power), J11 VCCIB0 (power), J15 VCCIB1 (power), J16 VCCIB1 (power), J17 VCCA (power), K9 VCCIB7 (power), K10 VCCA (power), K11 VCCA (power), K12 VCCIB0 (power), K14 VCCIB1 (power), K15 VCCA (power), K16 VCCA (power), K17 VCCIB2 (power), L9 VCCIB7 (power), L10 VCCA (power), L16 VCCA (power), L17 VCCIB2 (power), M10 VCCIB7 (power), M16 VCCIB2 (power), N5 VCCDA (power), N21 VCCDA (power), P10 VCCIB6 (power), P16 VCCIB3 (power), R9 VCCIB6 (power), R10 VCCA (power), R16 VCCA (power), R17 VCCIB3 (power), T9 VCCIB6 (power), T10 VCCA (power), T11 VCCA (power), T12 VCCIB5 (power), T14 VCCIB4 (power), T15 VCCA (power), T16 VCCA (power), T17 VCCIB3 (power), U9 VCCA (power), U10 VCCIB5 (power), U11 VCCIB5 (power), U15 VCCIB4 (power), U16 VCCIB4 (power), U17 VCCA (power), W21 VCCDA (power), Y4 VCCA (power)
part D pins: A2 GND (power), A8 GND (power), A18 GND (power), A24 GND (power), A25 GND (power), AA5 GND (power), AA10 GND (power), AA16 GND (power), AA18 GND (power), AA21 GND (power), AB4 GND (power), AB22 GND (power), AC3 GND (power), AC10 GND (power), AC16 GND (power), AC23 GND (power), AD1 GND (power), AD2 GND (power), AD24 GND (power), AD25 GND (power), AE1 GND (power), AE2 GND (power), AE8 GND (power), AE18 GND (power), AE24 GND (power), AE25 GND (power), B1 GND (power), B2 GND (power), B24 GND (power), B25 GND (power), C3 GND (power), C10 GND (power), C16 GND (power), C23 GND (power), D4 GND (power), D22 GND (power), E5 GND (power), E8 GND (power), E10 GND (power), E16 GND (power), E21 GND (power), H1 GND (power), H21 GND (power), H25 GND (power), K3 GND (power), K5 GND (power), K21 GND (power), K23 GND (power), L11 GND (power), L12 GND (power), L13 GND (power), L14 GND (power), L15 GND (power), M11 GND (power), M12 GND (power), M13 GND (power), M14 GND (power), M15 GND (power), N11 GND (power), N12 GND (power), N13 GND (power), N14 GND (power), N15 GND (power), P11 GND (power), P12 GND (power), P13 GND (power), P14 GND (power), P15 GND (power), R11 GND (power), R12 GND (power), R13 GND (power), R14 GND (power), R15 GND (power), T3 GND (power), T5 GND (power), T21 GND (power), T23 GND (power), V1 GND (power), V5 GND (power), V25 GND (power)
part E pins: A12 NC, A14 NC, A17 NC, AA2 NC, AA6 NC, AA8 NC, AA9 NC, AA11 NC, AA12 NC, AA14 NC, AA17 NC, AA19 NC, AA20 NC, AB2 NC, AB6 NC, AB9 NC, AB13 NC, AB16 NC, AB17 NC, AB18 NC, AB19 NC, AB24 NC, AC9 NC, AC15 NC, AC17 NC, AC18 NC, AC19 NC, AD4 NC, AD5 NC, AD6 NC, AD11 NC, AE9 NC, AE12 NC, AE14 NC, AE17 NC, AE21 NC, AE22 NC, B6 NC, B7 NC, B8 NC, B12 NC, B15 NC, B18 NC, B19 NC, B20 NC, B21 NC, B22 NC, C7 NC, C11 NC, C17 NC, D2 NC, D7 NC, D8 NC, D13 NC, D24 NC, E7 NC, E9 NC, E11 NC, E12 NC, E14 NC, E15 NC, E17 NC, E18 NC, E24 NC, F7 NC, F8 NC, F9 NC, F10 NC, F11 NC, F12 NC, F14 NC, F15 NC, F16 NC, F17 NC, F18 NC, F19 NC, F20 NC, F21 NC, F24 NC, G2 NC, G6 NC, G7 NC, G8 NC, G9 NC, G10 NC, G11 NC, G16 NC, G18 NC, G19 NC, G20 NC, G21 NC, G22 NC, G24 NC, H11 NC, H12 NC, H13 NC, H14 NC, H15 NC, H16 NC, H18 NC, J3 NC, J12 NC, J13 NC, J14 NC, J18 NC, J19 NC, J23 NC, J25 NC, K6 NC, K7 NC, K13 NC, K19 NC, K20 NC, L5 NC, L6 NC, L7 NC, L19 NC, L20 NC, L21 NC, L23 NC, M4 NC, M5 NC, M6 NC, M7 NC, M17 NC, M20 NC, M21 NC, N6 NC, N7 NC, N8 NC, N16 NC, N17 NC, N20 NC, P5 NC, P6 NC, P7 NC, P8 NC, P9 NC, P17 NC, P18 NC, P21 NC, P24 NC, R3 NC, R5 NC, R6 NC, R7 NC, R19 NC, R20 NC, R21 NC, T6 NC, T7 NC, T13 NC, T19 NC, T20 NC, T22 NC, U3 NC, U5 NC, U6 NC, U7 NC, U8 NC, U12 NC, U14 NC, U18 NC, U19 NC, U21 NC, V2 NC, V6 NC, V7 NC, V8 NC, V11 NC, V12 NC, V14 NC, V17 NC, V21 NC, W4 NC, W6 NC, W8 NC, W9 NC, W10 NC, W11 NC, W12 NC, W16 NC, W17 NC, W20 NC, W24 NC, Y6 NC, Y8 NC, Y9 NC, Y10 NC, Y11 NC, Y12 NC, Y14 NC, Y15 NC, Y16 NC, Y17 NC, Y18 NC, Y19 NC, Y20 NC
part A text: Bank 0; Bank 3; Bank 1; Bank 2
part B text: Bank 4; Bank 7; Bank 5; Bank 6

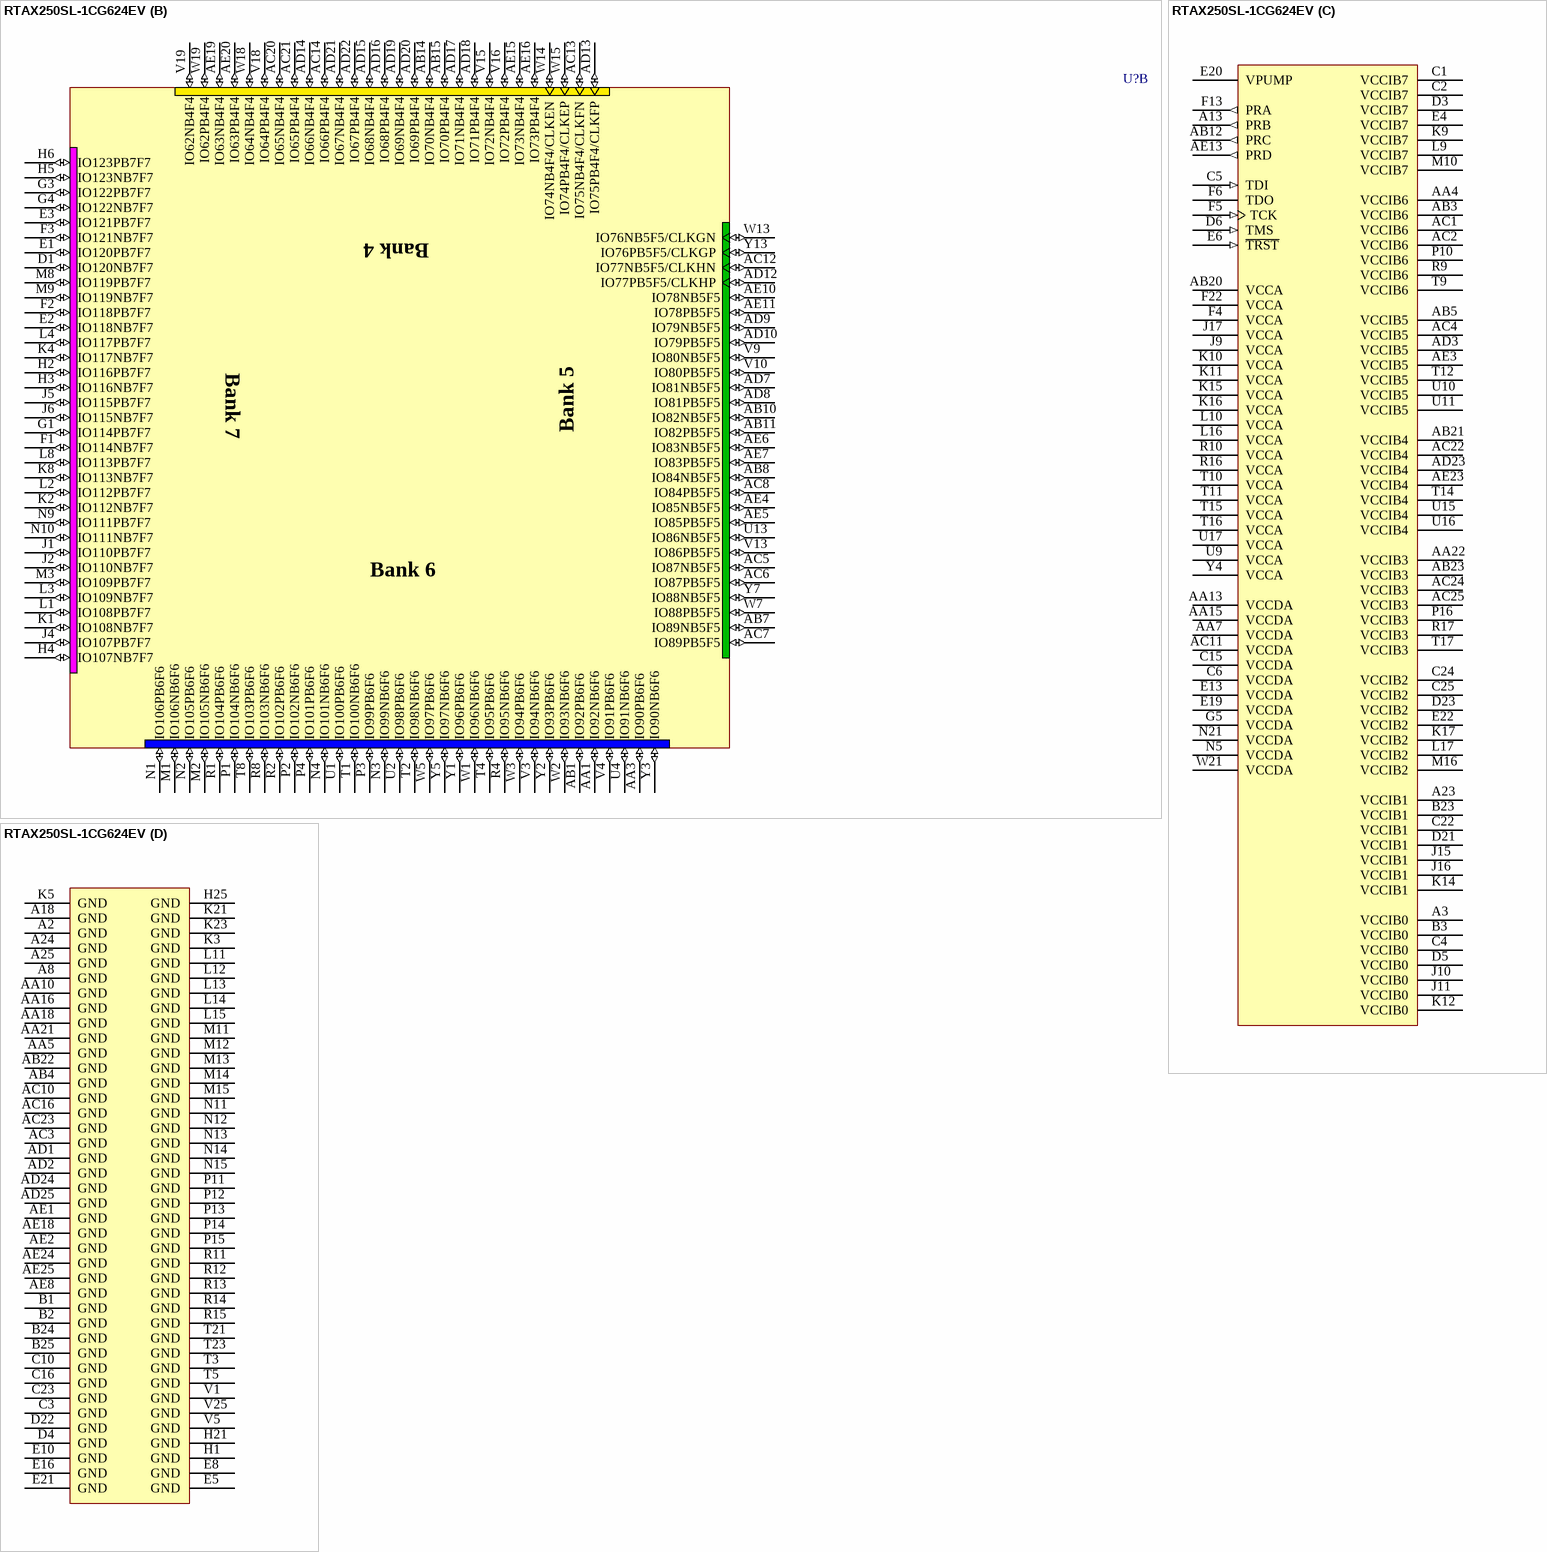
[diagram p37: symbol RTAX250SL-1CG624EV]

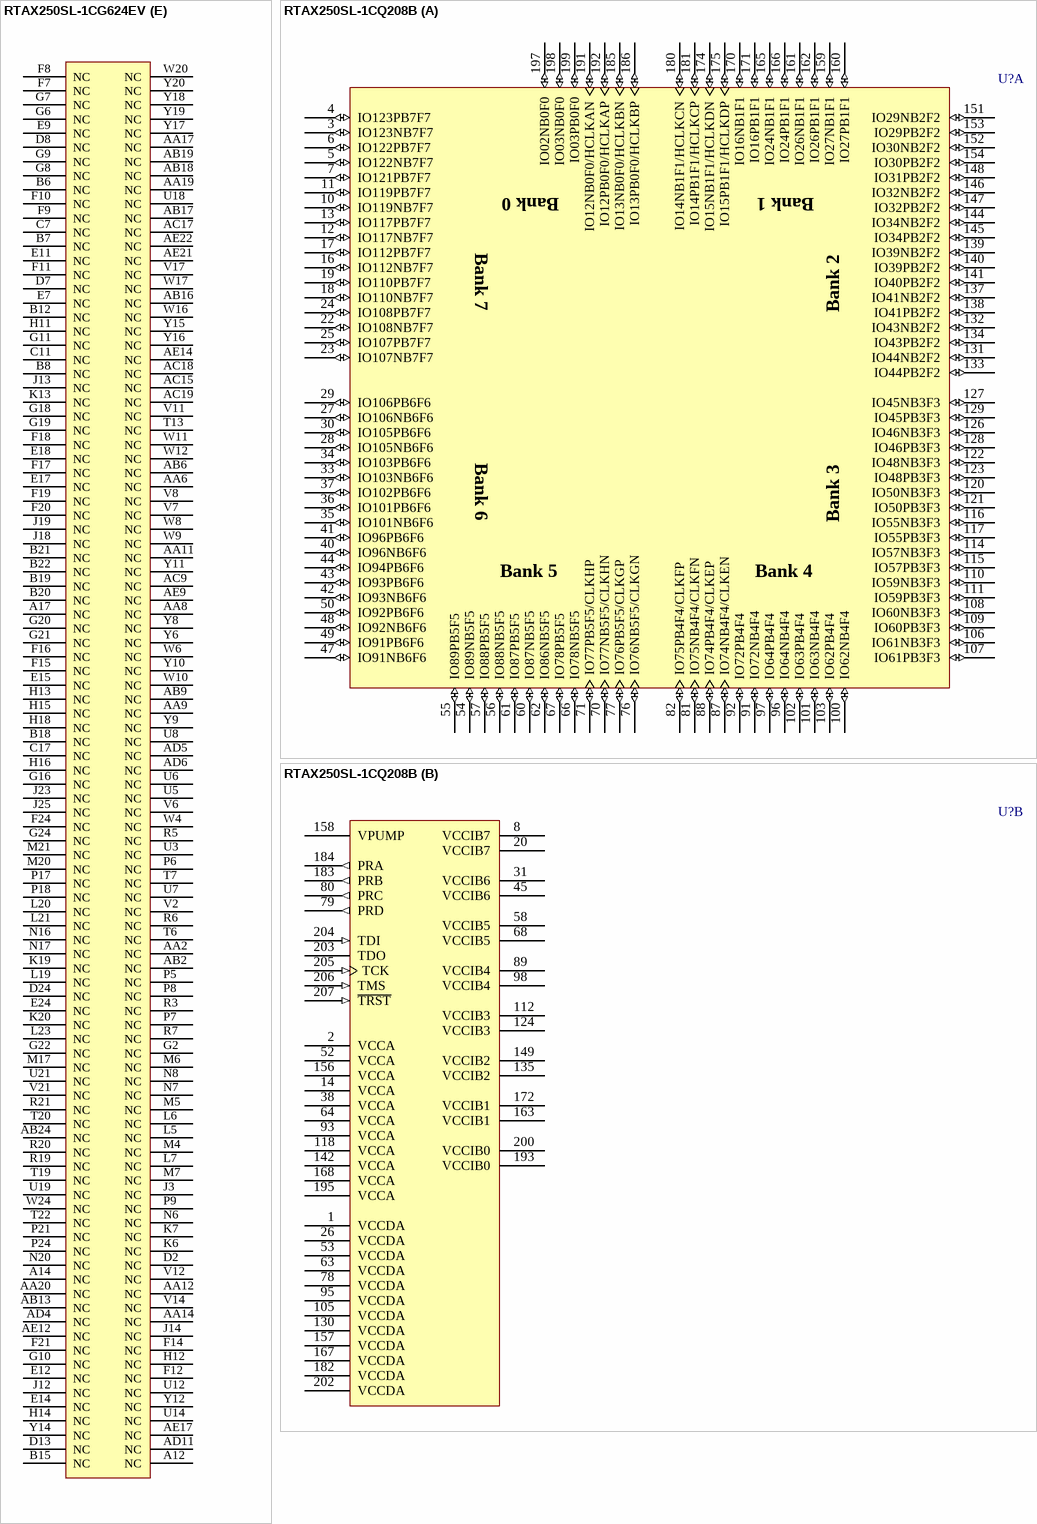
[diagram p38: symbols RTAX250SL-1CG624EV to RTAX250SL-1CQ208B]

## RTAX250SL-1CG624EV
designator U?
RTAX-SL RadTolerant FPGA, 250K Equivalent System Gates, Low-Power, 624-Pin CCGA, Speed Grade 1, Class V; Published: 11-Dec-2009; DatasheetVersion: v5.4, May-2009; PackageVersion: ver11.2, Nov-2009; PackageReference: CG624; Publisher: Altium Limited; PackageDescription: 624-Pin Ceramic Column Grid Array 1.27 mm Pitch; Code_JEDEC: MO-158-BE-01; ComponentLink1Description: RTAX-S/SL RadTolerant Datasheet; ComponentLink1URL: http://www.actel.com/documents/RTAXS_DS.pdf; ComponentLink2Description: Package Mechanical Drawings; ComponentLink2URL: http://www.actel.com/documents/PckgMechDrwngs.pdf; ComponentLink3Description: RTAX-S/SL RadTolerant Documents; ComponentLink3URL: http://www.actel.com/products/milaero/rtaxs/docs.aspx; ComponentLink4Description: Actel.com Home; ComponentLink4URL: http://www.actel.com/
footprint CG624 (CGA, 624-Leads, Body 32.5x32.5mm, Pitch 1.27mm)
part A pins: A4 IO03PB0F0 (io), A5 IO03NB0F0 (io), A6 IO05PB0F0 (io), A7 IO05NB0F0 (io), A9 IO09NB0F0 (io), A10 IO11PB0F0 (io), A11 IO11NB0F0 (io), A15 IO17PB1F1 (io), A16 IO17NB1F1 (io), A19 IO21PB1F1 (io), A20 IO21NB1F1 (io), A21 IO23PB1F1 (io), A22 IO23NB1F1 (io), AA23 IO51PB3F3 (io), AA24 IO56NB3F3 (io), AA25 IO58PB3F3 (io), AB25 IO58NB3F3 (io), B4 IO01PB0F0 (io), B5 IO01NB0F0 (io), B9 IO09PB0F0 (io), B10 IO07PB0F0 (io), B11 IO07NB0F0 (io), B13 IO15PB1F1/HCLKDP (io), B14 IO15NB1F1/HCLKDN (io), B16 IO19PB1F1 (io), B17 IO19NB1F1 (io), C8 IO00PB0F0 (io), C9 IO00NB0F0 (io), C12 IO13PB0F0/HCLKBP (io), C13 IO13NB0F0/HCLKBN (io), C14 IO16PB1F1 (io), C18 IO26PB1F1 (io), C19 IO26NB1F1 (io), C20 IO25PB1F1 (io), C21 IO25NB1F1 (io), D9 IO02PB0F0 (io), D10 IO02NB0F0 (io), D11 IO10PB0F0 (io), D12 IO10NB0F0 (io), D14 IO16NB1F1 (io), D15 IO20PB1F1 (io), D16 IO20NB1F1 (io), D17 IO22PB1F1 (io), D18 IO22NB1F1 (io), D19 IO27PB1F1 (io), D20 IO27NB1F1 (io), D25 IO32PB2F2 (io), E23 IO30PB2F2 (io), E25 IO32NB2F2 (io), F23 IO30NB2F2 (io), F25 IO36PB2F2 (io), G12 IO12PB0F0/HCLKAP (io), G13 IO12NB0F0/HCLKAN (io), G14 IO14PB1F1/HCLKCP (io), G15 IO14NB1F1/HCLKCN (io), G17 IO24NB1F1 (io), G23 IO34PB2F2 (io), G25 IO36NB2F2 (io), H7 IO04PB0F0 (io), H8 IO04NB0F0 (io), H9 IO06PB0F0 (io), H10 IO06NB0F0 (io), H17 IO24PB1F1 (io), H19 IO18PB1F1 (io), H20 IO18NB1F1 (io), H22 IO28PB2F2 (io), H23 IO34NB2F2 (io), H24 IO38PB2F2 (io), J7 IO08PB0F0 (io), J8 IO08NB0F0 (io), J20 IO31PB2F2 (io), J21 IO31NB2F2 (io), J22 IO28NB2F2 (io), J24 IO38NB2F2 (io), K18 IO29PB2F2 (io), K22 IO35PB2F2 (io), K24 IO37PB2F2 (io), K25 IO42PB2F2 (io), L18 IO29NB2F2 (io), L22 IO35NB2F2 (io), L24 IO37NB2F2 (io), L25 IO42NB2F2 (io), M18 IO33PB2F2 (io), M19 IO33NB2F2 (io), M22 IO39PB2F2 (io), M23 IO43PB2F2 (io), M24 IO40PB2F2 (io), M25 IO44PB2F2 (io), N18 IO41PB2F2 (io), N19 IO41NB2F2 (io), N22 IO39NB2F2 (io), N23 IO43NB2F2 (io), N24 IO40NB2F2 (io), N25 IO44NB2F2 (io), P19 IO53PB3F3 (io), P20 IO53NB3F3 (io), P22 IO45PB3F3 (io), P23 IO47PB3F3 (io), P25 IO46PB3F3 (io), R18 IO61PB3F3 (io), R22 IO45NB3F3 (io), R23 IO47NB3F3 (io), R24 IO50PB3F3 (io), R25 IO46NB3F3 (io), T18 IO61NB3F3 (io), T24 IO50NB3F3 (io), T25 IO54PB3F3 (io), U20 IO57PB3F3 (io), U22 IO55PB3F3 (io), U23 IO49PB3F3 (io), U24 IO49NB3F3 (io), U25 IO54NB3F3 (io), V20 IO57NB3F3 (io), V22 IO55NB3F3 (io), V23 IO52NB3F3 (io), V24 IO52PB3F3 (io), W22 IO60NB3F3 (io), W23 IO60PB3F3 (io), W25 IO48PB3F3 (io), Y21 IO59PB3F3 (io), Y22 IO59NB3F3 (io), Y23 IO51NB3F3 (io), Y24 IO56PB3F3 (io), Y25 IO48NB3F3 (io)
part B pins: AA1 IO92NB6F6 (io), AA3 IO90PB6F6 (io), AB1 IO92PB6F6 (io), AB7 IO89NB5F5 (io), AB8 IO84NB5F5 (io), AB10 IO82NB5F5 (io), AB11 IO82PB5F5 (io), AB14 IO70NB4F4 (io), AB15 IO70PB4F4 (io), AC5 IO87NB5F5 (io), AC6 IO87PB5F5 (io), AC7 IO89PB5F5 (io), AC8 IO84PB5F5 (io), AC12 IO77NB5F5/CLKHN (io), AC13 IO75NB4F4/CLKFN (io), AC14 IO66PB4F4 (io), AC20 IO65NB4F4 (io), AC21 IO65PB4F4 (io), AD7 IO81NB5F5 (io), AD8 IO81PB5F5 (io), AD9 IO79NB5F5 (io), AD10 IO79PB5F5 (io), AD12 IO77PB5F5/CLKHP (io), AD13 IO75PB4F4/CLKFP (io), AD14 IO66NB4F4 (io), AD15 IO68NB4F4 (io), AD16 IO68PB4F4 (io), AD17 IO71NB4F4 (io), AD18 IO71PB4F4 (io), AD19 IO69NB4F4 (io), AD20 IO69PB4F4 (io), AD21 IO67NB4F4 (io), AD22 IO67PB4F4 (io), AE4 IO85NB5F5 (io), AE5 IO85PB5F5 (io), AE6 IO83NB5F5 (io), AE7 IO83PB5F5 (io), AE10 IO78NB5F5 (io), AE11 IO78PB5F5 (io), AE15 IO73NB4F4 (io), AE16 IO73PB4F4 (io), AE19 IO63NB4F4 (io), AE20 IO63PB4F4 (io), D1 IO120NB7F7 (io), E1 IO120PB7F7 (io), E2 IO118NB7F7 (io), E3 IO121PB7F7 (io), F1 IO114NB7F7 (io), F2 IO118PB7F7 (io), F3 IO121NB7F7 (io), G1 IO114PB7F7 (io), G3 IO122PB7F7 (io), G4 IO122NB7F7 (io), H2 IO116PB7F7 (io), H3 IO116NB7F7 (io), H4 IO107NB7F7 (io), H5 IO123NB7F7 (io), H6 IO123PB7F7 (io), J1 IO110PB7F7 (io), J2 IO110NB7F7 (io), J4 IO107PB7F7 (io), J5 IO115PB7F7 (io), J6 IO115NB7F7 (io), K1 IO108NB7F7 (io), K2 IO112NB7F7 (io), K4 IO117NB7F7 (io), K8 IO113NB7F7 (io), L1 IO108PB7F7 (io), L2 IO112PB7F7 (io), L3 IO109NB7F7 (io), L4 IO117PB7F7 (io), L8 IO113PB7F7 (io), M1 IO106NB6F6 (io), M2 IO105NB6F6 (io), M3 IO109PB7F7 (io), M8 IO119PB7F7 (io), M9 IO119NB7F7 (io), N1 IO106PB6F6 (io), N2 IO105PB6F6 (io), N3 IO99NB6F6 (io), N4 IO101NB6F6 (io), N9 IO111PB7F7 (io), N10 IO111NB7F7 (io), P1 IO104NB6F6 (io), P2 IO102NB6F6 (io), P3 IO99PB6F6 (io), P4 IO101PB6F6 (io), R1 IO104PB6F6 (io), R2 IO102PB6F6 (io), R4 IO95NB6F6 (io), R8 IO103NB6F6 (io), T1 IO100NB6F6 (io), T2 IO98NB6F6 (io), T4 IO95PB6F6 (io), T8 IO103PB6F6 (io), U1 IO100PB6F6 (io), U2 IO98PB6F6 (io), U4 IO91NB6F6 (io), U13 IO86NB5F5 (io), V3 IO94NB6F6 (io), V4 IO91PB6F6 (io), V9 IO80NB5F5 (io), V10 IO80PB5F5 (io), V13 IO86PB5F5 (io), V15 IO72NB4F4 (io), V16 IO72PB4F4 (io), V18 IO64PB4F4 (io), V19 IO62NB4F4 (io), W1 IO96NB6F6 (io), W2 IO93NB6F6 (io), W3 IO94PB6F6 (io), W5 IO97PB6F6 (io), W7 IO88PB5F5 (io), W13 IO76NB5F5/CLKGN (io), W14 IO74NB4F4/CLKEN (io), W15 IO74PB4F4/CLKEP (io), W18 IO64NB4F4 (io), W19 IO62PB4F4 (io), Y1 IO96PB6F6 (io), Y2 IO93PB6F6 (io), Y3 IO90NB6F6 (io), Y5 IO97NB6F6 (io), Y7 IO88NB5F5 (io), Y13 IO76PB5F5/CLKGP (io)
part C pins: A3 VCCIB0 (power), A13 PRB (out), A23 VCCIB1 (power), AA4 VCCIB6 (power), AA7 VCCDA (power), AA13 VCCDA (power), AA15 VCCDA (power), AA22 VCCIB3 (power), AB3 VCCIB6 (power), AB5 VCCIB5 (power), AB12 PRC (out), AB20 VCCA (power), AB21 VCCIB4 (power), AB23 VCCIB3 (power), AC1 VCCIB6 (power), AC2 VCCIB6 (power), AC4 VCCIB5 (power), AC11 VCCDA (power), AC22 VCCIB4 (power), AC24 VCCIB3 (power), AC25 VCCIB3 (power), AD3 VCCIB5 (power), AD23 VCCIB4 (power), AE3 VCCIB5 (power), AE13 PRD (out), AE23 VCCIB4 (power), B3 VCCIB0 (power), B23 VCCIB1 (power), C1 VCCIB7 (power), C2 VCCIB7 (power), C4 VCCIB0 (power), C5 TDI (in), C6 VCCDA (power), C15 VCCDA (power), C22 VCCIB1 (power), C24 VCCIB2 (power), C25 VCCIB2 (power), D3 VCCIB7 (power), D5 VCCIB0 (power), D6 TMS (in), D21 VCCIB1 (power), D23 VCCIB2 (power), E4 VCCIB7 (power), E6 ~{TRST} (in), E13 VCCDA (power), E19 VCCDA (power), E20 VPUMP (power), E22 VCCIB2 (power), F4 VCCA (power), F5 TCK (in), F6 TDO (hiz), F13 PRA (out), F22 VCCA (power), G5 VCCDA (power), J9 VCCA (power), J10 VCCIB0 (power), J11 VCCIB0 (power), J15 VCCIB1 (power), J16 VCCIB1 (power), J17 VCCA (power), K9 VCCIB7 (power), K10 VCCA (power), K11 VCCA (power), K12 VCCIB0 (power), K14 VCCIB1 (power), K15 VCCA (power), K16 VCCA (power), K17 VCCIB2 (power), L9 VCCIB7 (power), L10 VCCA (power), L16 VCCA (power), L17 VCCIB2 (power), M10 VCCIB7 (power), M16 VCCIB2 (power), N5 VCCDA (power), N21 VCCDA (power), P10 VCCIB6 (power), P16 VCCIB3 (power), R9 VCCIB6 (power), R10 VCCA (power), R16 VCCA (power), R17 VCCIB3 (power), T9 VCCIB6 (power), T10 VCCA (power), T11 VCCA (power), T12 VCCIB5 (power), T14 VCCIB4 (power), T15 VCCA (power), T16 VCCA (power), T17 VCCIB3 (power), U9 VCCA (power), U10 VCCIB5 (power), U11 VCCIB5 (power), U15 VCCIB4 (power), U16 VCCIB4 (power), U17 VCCA (power), W21 VCCDA (power), Y4 VCCA (power)
part D pins: A2 GND (power), A8 GND (power), A18 GND (power), A24 GND (power), A25 GND (power), AA5 GND (power), AA10 GND (power), AA16 GND (power), AA18 GND (power), AA21 GND (power), AB4 GND (power), AB22 GND (power), AC3 GND (power), AC10 GND (power), AC16 GND (power), AC23 GND (power), AD1 GND (power), AD2 GND (power), AD24 GND (power), AD25 GND (power), AE1 GND (power), AE2 GND (power), AE8 GND (power), AE18 GND (power), AE24 GND (power), AE25 GND (power), B1 GND (power), B2 GND (power), B24 GND (power), B25 GND (power), C3 GND (power), C10 GND (power), C16 GND (power), C23 GND (power), D4 GND (power), D22 GND (power), E5 GND (power), E8 GND (power), E10 GND (power), E16 GND (power), E21 GND (power), H1 GND (power), H21 GND (power), H25 GND (power), K3 GND (power), K5 GND (power), K21 GND (power), K23 GND (power), L11 GND (power), L12 GND (power), L13 GND (power), L14 GND (power), L15 GND (power), M11 GND (power), M12 GND (power), M13 GND (power), M14 GND (power), M15 GND (power), N11 GND (power), N12 GND (power), N13 GND (power), N14 GND (power), N15 GND (power), P11 GND (power), P12 GND (power), P13 GND (power), P14 GND (power), P15 GND (power), R11 GND (power), R12 GND (power), R13 GND (power), R14 GND (power), R15 GND (power), T3 GND (power), T5 GND (power), T21 GND (power), T23 GND (power), V1 GND (power), V5 GND (power), V25 GND (power)
part E pins: A12 NC, A14 NC, A17 NC, AA2 NC, AA6 NC, AA8 NC, AA9 NC, AA11 NC, AA12 NC, AA14 NC, AA17 NC, AA19 NC, AA20 NC, AB2 NC, AB6 NC, AB9 NC, AB13 NC, AB16 NC, AB17 NC, AB18 NC, AB19 NC, AB24 NC, AC9 NC, AC15 NC, AC17 NC, AC18 NC, AC19 NC, AD4 NC, AD5 NC, AD6 NC, AD11 NC, AE9 NC, AE12 NC, AE14 NC, AE17 NC, AE21 NC, AE22 NC, B6 NC, B7 NC, B8 NC, B12 NC, B15 NC, B18 NC, B19 NC, B20 NC, B21 NC, B22 NC, C7 NC, C11 NC, C17 NC, D2 NC, D7 NC, D8 NC, D13 NC, D24 NC, E7 NC, E9 NC, E11 NC, E12 NC, E14 NC, E15 NC, E17 NC, E18 NC, E24 NC, F7 NC, F8 NC, F9 NC, F10 NC, F11 NC, F12 NC, F14 NC, F15 NC, F16 NC, F17 NC, F18 NC, F19 NC, F20 NC, F21 NC, F24 NC, G2 NC, G6 NC, G7 NC, G8 NC, G9 NC, G10 NC, G11 NC, G16 NC, G18 NC, G19 NC, G20 NC, G21 NC, G22 NC, G24 NC, H11 NC, H12 NC, H13 NC, H14 NC, H15 NC, H16 NC, H18 NC, J3 NC, J12 NC, J13 NC, J14 NC, J18 NC, J19 NC, J23 NC, J25 NC, K6 NC, K7 NC, K13 NC, K19 NC, K20 NC, L5 NC, L6 NC, L7 NC, L19 NC, L20 NC, L21 NC, L23 NC, M4 NC, M5 NC, M6 NC, M7 NC, M17 NC, M20 NC, M21 NC, N6 NC, N7 NC, N8 NC, N16 NC, N17 NC, N20 NC, P5 NC, P6 NC, P7 NC, P8 NC, P9 NC, P17 NC, P18 NC, P21 NC, P24 NC, R3 NC, R5 NC, R6 NC, R7 NC, R19 NC, R20 NC, R21 NC, T6 NC, T7 NC, T13 NC, T19 NC, T20 NC, T22 NC, U3 NC, U5 NC, U6 NC, U7 NC, U8 NC, U12 NC, U14 NC, U18 NC, U19 NC, U21 NC, V2 NC, V6 NC, V7 NC, V8 NC, V11 NC, V12 NC, V14 NC, V17 NC, V21 NC, W4 NC, W6 NC, W8 NC, W9 NC, W10 NC, W11 NC, W12 NC, W16 NC, W17 NC, W20 NC, W24 NC, Y6 NC, Y8 NC, Y9 NC, Y10 NC, Y11 NC, Y12 NC, Y14 NC, Y15 NC, Y16 NC, Y17 NC, Y18 NC, Y19 NC, Y20 NC
part A text: Bank 0; Bank 3; Bank 1; Bank 2
part B text: Bank 4; Bank 7; Bank 5; Bank 6

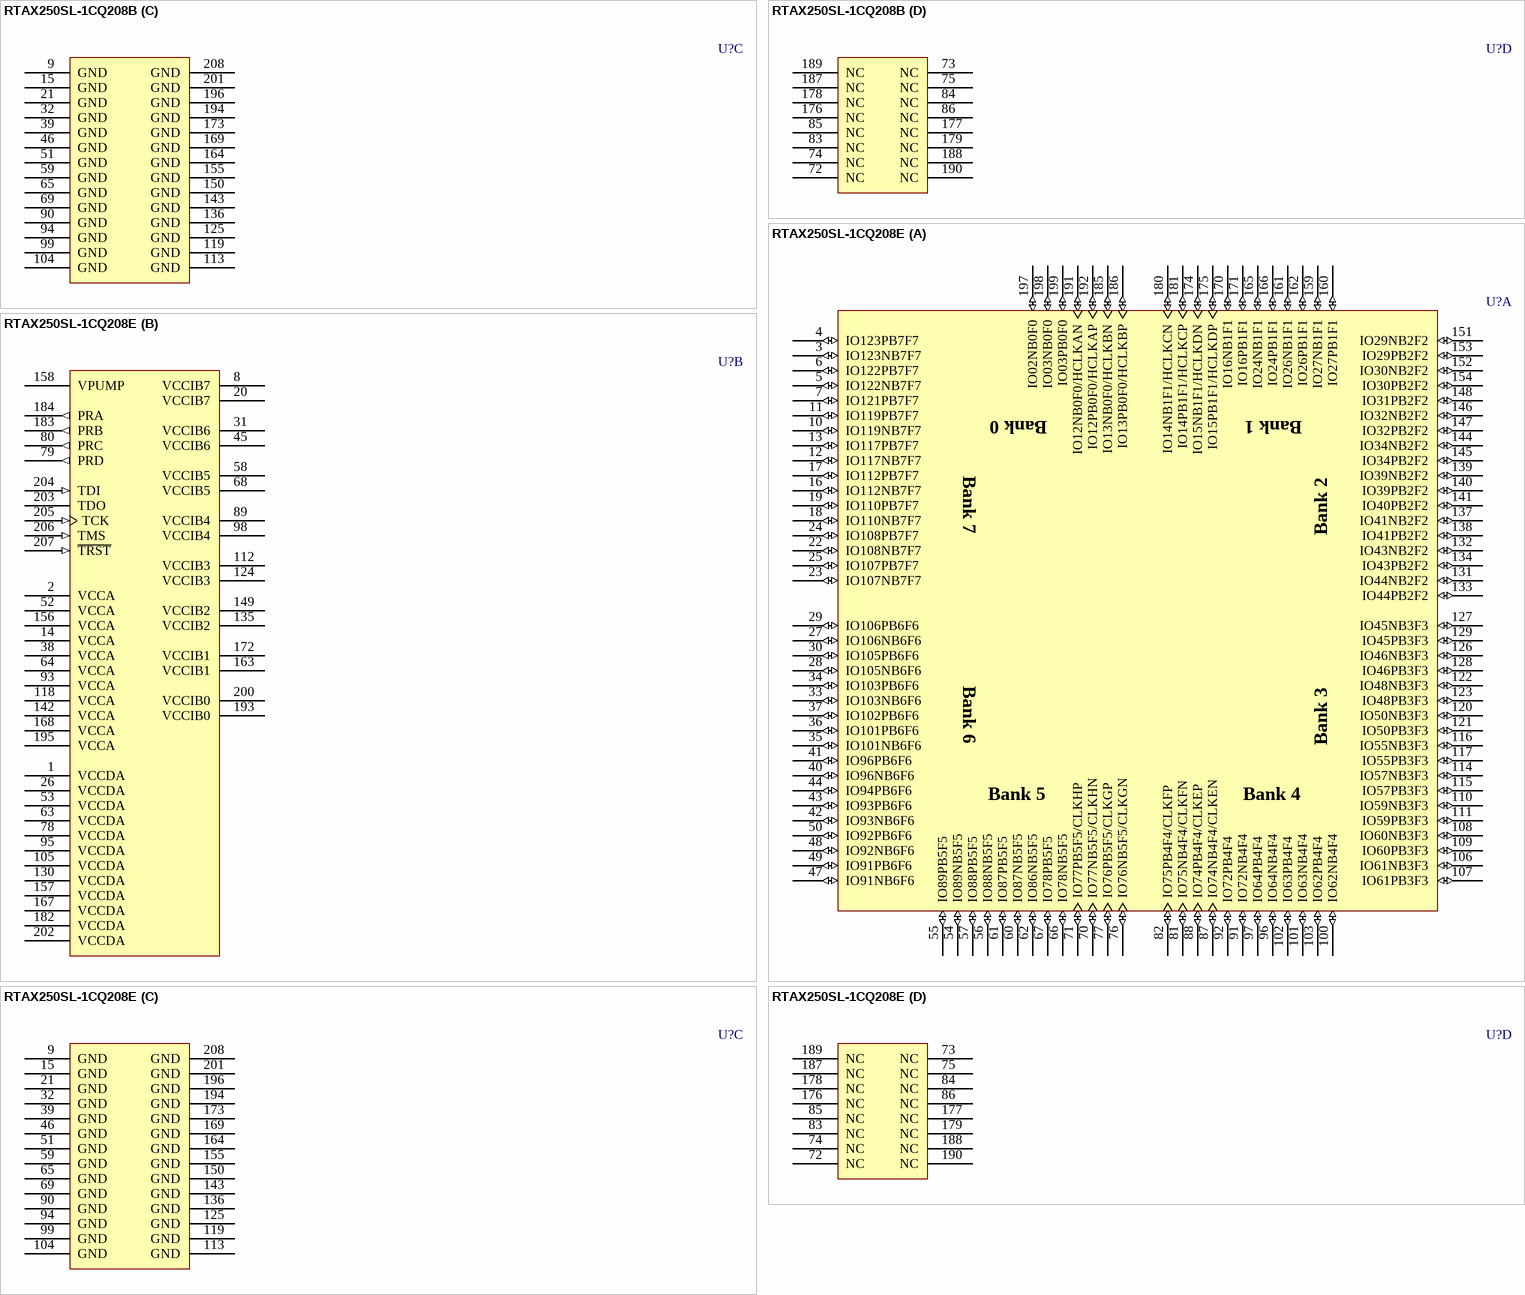
[diagram p39: symbols RTAX250SL-1CQ208B to RTAX250SL-1CQ208E]

## RTAX250SL-1CQ208B
designator U?
RTAX-SL RadTolerant FPGA, 250K Equivalent System Gates, Low-Power, 208-Pin CQFP, Speed Grade 1, MIL-STD-883 Class B; Published: 11-Dec-2009; DatasheetVersion: v5.4, May-2009; PackageVersion: ver11.2, Nov-2009; PackageReference: CQ208; Publisher: Altium Limited; PackageDescription: 208-Pin Ceramic Quad Flat Pack (CQFP); ComponentLink1Description: RTAX-S/SL RadTolerant Datasheet; ComponentLink1URL: http://www.actel.com/documents/RTAXS_DS.pdf; ComponentLink2Description: Package Mechanical Drawings; ComponentLink2URL: http://www.actel.com/documents/PckgMechDrwngs.pdf; ComponentLink3Description: RTAX-S/SL RadTolerant Documents; ComponentLink3URL: http://www.actel.com/products/milaero/rtaxs/docs.aspx; ComponentLink4Description: Actel.com Home; ComponentLink4URL: http://www.actel.com/
footprint CQ208_N (CQFP, 208-Leads, Body 29x29mm; Pitch 0.5mm, Gullwing Leadform, IPC Medium Density)
footprint CQ208_L (CQFP, 208-Leads, Body 29x29mm; Pitch 0.5mm, Gullwing Leadform, IPC High Density)
footprint CQ208_M (CQFP, 208-Leads, Body 29x29mm; Pitch 0.5mm, Gullwing Leadform, IPC Low Density)
part A pins: 3 IO123NB7F7 (io), 4 IO123PB7F7 (io), 5 IO122NB7F7 (io), 6 IO122PB7F7 (io), 7 IO121PB7F7 (io), 10 IO119NB7F7 (io), 11 IO119PB7F7 (io), 12 IO117NB7F7 (io), 13 IO117PB7F7 (io), 16 IO112NB7F7 (io), 17 IO112PB7F7 (io), 18 IO110NB7F7 (io), 19 IO110PB7F7 (io), 22 IO108NB7F7 (io), 23 IO107NB7F7 (io), 24 IO108PB7F7 (io), 25 IO107PB7F7 (io), 27 IO106NB6F6 (io), 28 IO105NB6F6 (io), 29 IO106PB6F6 (io), 30 IO105PB6F6 (io), 33 IO103NB6F6 (io), 34 IO103PB6F6 (io), 35 IO101NB6F6 (io), 36 IO101PB6F6 (io), 37 IO102PB6F6 (io), 40 IO96NB6F6 (io), 41 IO96PB6F6 (io), 42 IO93NB6F6 (io), 43 IO93PB6F6 (io), 44 IO94PB6F6 (io), 47 IO91NB6F6 (io), 48 IO92NB6F6 (io), 49 IO91PB6F6 (io), 50 IO92PB6F6 (io), 54 IO89NB5F5 (io), 55 IO89PB5F5 (io), 56 IO88NB5F5 (io), 57 IO88PB5F5 (io), 60 IO87NB5F5 (io), 61 IO87PB5F5 (io), 62 IO86NB5F5 (io), 66 IO78NB5F5 (io), 67 IO78PB5F5 (io), 70 IO77NB5F5/CLKHN (io), 71 IO77PB5F5/CLKHP (io), 76 IO76NB5F5/CLKGN (io), 77 IO76PB5F5/CLKGP (io), 81 IO75NB4F4/CLKFN (io), 82 IO75PB4F4/CLKFP (io), 87 IO74NB4F4/CLKEN (io), 88 IO74PB4F4/CLKEP (io), 91 IO72NB4F4 (io), 92 IO72PB4F4 (io), 96 IO64NB4F4 (io), 97 IO64PB4F4 (io), 100 IO62NB4F4 (io), 101 IO63NB4F4 (io), 102 IO63PB4F4 (io), 103 IO62PB4F4 (io), 106 IO61NB3F3 (io), 107 IO61PB3F3 (io), 108 IO60NB3F3 (io), 109 IO60PB3F3 (io), 110 IO59NB3F3 (io), 111 IO59PB3F3 (io), 114 IO57NB3F3 (io), 115 IO57PB3F3 (io), 116 IO55NB3F3 (io), 117 IO55PB3F3 (io), 120 IO50NB3F3 (io), 121 IO50PB3F3 (io), 122 IO48NB3F3 (io), 123 IO48PB3F3 (io), 126 IO46NB3F3 (io), 127 IO45NB3F3 (io), 128 IO46PB3F3 (io), 129 IO45PB3F3 (io), 131 IO44NB2F2 (io), 132 IO43NB2F2 (io), 133 IO44PB2F2 (io), 134 IO43PB2F2 (io), 137 IO41NB2F2 (io), 138 IO41PB2F2 (io), 139 IO39NB2F2 (io), 140 IO39PB2F2 (io), 141 IO40PB2F2 (io), 144 IO34NB2F2 (io), 145 IO34PB2F2 (io), 146 IO32NB2F2 (io), 147 IO32PB2F2 (io), 148 IO31PB2F2 (io), 151 IO29NB2F2 (io), 152 IO30NB2F2 (io), 153 IO29PB2F2 (io), 154 IO30PB2F2 (io), 159 IO27NB1F1 (io), 160 IO27PB1F1 (io), 161 IO26NB1F1 (io), 162 IO26PB1F1 (io), 165 IO24NB1F1 (io), 166 IO24PB1F1 (io), 170 IO16NB1F1 (io), 171 IO16PB1F1 (io), 174 IO15NB1F1/HCLKDN (io), 175 IO15PB1F1/HCLKDP (io), 180 IO14NB1F1/HCLKCN (io), 181 IO14PB1F1/HCLKCP (io), 185 IO13NB0F0/HCLKBN (io), 186 IO13PB0F0/HCLKBP (io), 191 IO12NB0F0/HCLKAN (io), 192 IO12PB0F0/HCLKAP (io), 197 IO02NB0F0 (io), 198 IO03NB0F0 (io), 199 IO03PB0F0 (io)
part B pins: 1 VCCDA (power), 2 VCCA (power), 8 VCCIB7 (power), 14 VCCA (power), 20 VCCIB7 (power), 26 VCCDA (power), 31 VCCIB6 (power), 38 VCCA (power), 45 VCCIB6 (power), 52 VCCA (power), 53 VCCDA (power), 58 VCCIB5 (power), 63 VCCDA (power), 64 VCCA (power), 68 VCCIB5 (power), 78 VCCDA (power), 79 PRD (out), 80 PRC (out), 89 VCCIB4 (power), 93 VCCA (power), 95 VCCDA (power), 98 VCCIB4 (power), 105 VCCDA (power), 112 VCCIB3 (power), 118 VCCA (power), 124 VCCIB3 (power), 130 VCCDA (power), 135 VCCIB2 (power), 142 VCCA (power), 149 VCCIB2 (power), 156 VCCA (power), 157 VCCDA (power), 158 VPUMP (power), 163 VCCIB1 (power), 167 VCCDA (power), 168 VCCA (power), 172 VCCIB1 (power), 182 VCCDA (power), 183 PRB (out), 184 PRA (out), 193 VCCIB0 (power), 195 VCCA (power), 200 VCCIB0 (power), 202 VCCDA (power), 203 TDO (hiz), 204 TDI (in), 205 TCK (in), 206 TMS (in), 207 ~{TRST} (in)
part C pins: 9 GND (power), 15 GND (power), 21 GND (power), 32 GND (power), 39 GND (power), 46 GND (power), 51 GND (power), 59 GND (power), 65 GND (power), 69 GND (power), 90 GND (power), 94 GND (power), 99 GND (power), 104 GND (power), 113 GND (power), 119 GND (power), 125 GND (power), 136 GND (power), 143 GND (power), 150 GND (power), 155 GND (power), 164 GND (power), 169 GND (power), 173 GND (power), 194 GND (power), 196 GND (power), 201 GND (power), 208 GND (power)
part D pins: 72 NC, 73 NC, 74 NC, 75 NC, 83 NC, 84 NC, 85 NC, 86 NC, 176 NC, 177 NC, 178 NC, 179 NC, 187 NC, 188 NC, 189 NC, 190 NC
part A text: Bank 0; Bank 1; Bank 7; Bank 2; Bank 6; Bank 3; Bank 5; Bank 4

## RTAX250SL-1CQ208E
designator U?
RTAX-SL RadTolerant FPGA, 250K Equivalent System Gates, Low-Power, 208-Pin CQFP, Speed Grade 1, E-Flow (Space Level Flow); Published: 11-Dec-2009; DatasheetVersion: v5.4, May-2009; PackageVersion: ver11.2, Nov-2009; PackageReference: CQ208; Publisher: Altium Limited; PackageDescription: 208-Pin Ceramic Quad Flat Pack (CQFP); ComponentLink1Description: RTAX-S/SL RadTolerant Datasheet; ComponentLink1URL: http://www.actel.com/documents/RTAXS_DS.pdf; ComponentLink2Description: Package Mechanical Drawings; ComponentLink2URL: http://www.actel.com/documents/PckgMechDrwngs.pdf; ComponentLink3Description: RTAX-S/SL RadTolerant Documents; ComponentLink3URL: http://www.actel.com/products/milaero/rtaxs/docs.aspx; ComponentLink4Description: Actel.com Home; ComponentLink4URL: http://www.actel.com/
footprint CQ208_N (CQFP, 208-Leads, Body 29x29mm; Pitch 0.5mm, Gullwing Leadform, IPC Medium Density)
footprint CQ208_L (CQFP, 208-Leads, Body 29x29mm; Pitch 0.5mm, Gullwing Leadform, IPC High Density)
footprint CQ208_M (CQFP, 208-Leads, Body 29x29mm; Pitch 0.5mm, Gullwing Leadform, IPC Low Density)
part A pins: 3 IO123NB7F7 (io), 4 IO123PB7F7 (io), 5 IO122NB7F7 (io), 6 IO122PB7F7 (io), 7 IO121PB7F7 (io), 10 IO119NB7F7 (io), 11 IO119PB7F7 (io), 12 IO117NB7F7 (io), 13 IO117PB7F7 (io), 16 IO112NB7F7 (io), 17 IO112PB7F7 (io), 18 IO110NB7F7 (io), 19 IO110PB7F7 (io), 22 IO108NB7F7 (io), 23 IO107NB7F7 (io), 24 IO108PB7F7 (io), 25 IO107PB7F7 (io), 27 IO106NB6F6 (io), 28 IO105NB6F6 (io), 29 IO106PB6F6 (io), 30 IO105PB6F6 (io), 33 IO103NB6F6 (io), 34 IO103PB6F6 (io), 35 IO101NB6F6 (io), 36 IO101PB6F6 (io), 37 IO102PB6F6 (io), 40 IO96NB6F6 (io), 41 IO96PB6F6 (io), 42 IO93NB6F6 (io), 43 IO93PB6F6 (io), 44 IO94PB6F6 (io), 47 IO91NB6F6 (io), 48 IO92NB6F6 (io), 49 IO91PB6F6 (io), 50 IO92PB6F6 (io), 54 IO89NB5F5 (io), 55 IO89PB5F5 (io), 56 IO88NB5F5 (io), 57 IO88PB5F5 (io), 60 IO87NB5F5 (io), 61 IO87PB5F5 (io), 62 IO86NB5F5 (io), 66 IO78NB5F5 (io), 67 IO78PB5F5 (io), 70 IO77NB5F5/CLKHN (io), 71 IO77PB5F5/CLKHP (io), 76 IO76NB5F5/CLKGN (io), 77 IO76PB5F5/CLKGP (io), 81 IO75NB4F4/CLKFN (io), 82 IO75PB4F4/CLKFP (io), 87 IO74NB4F4/CLKEN (io), 88 IO74PB4F4/CLKEP (io), 91 IO72NB4F4 (io), 92 IO72PB4F4 (io), 96 IO64NB4F4 (io), 97 IO64PB4F4 (io), 100 IO62NB4F4 (io), 101 IO63NB4F4 (io), 102 IO63PB4F4 (io), 103 IO62PB4F4 (io), 106 IO61NB3F3 (io), 107 IO61PB3F3 (io), 108 IO60NB3F3 (io), 109 IO60PB3F3 (io), 110 IO59NB3F3 (io), 111 IO59PB3F3 (io), 114 IO57NB3F3 (io), 115 IO57PB3F3 (io), 116 IO55NB3F3 (io), 117 IO55PB3F3 (io), 120 IO50NB3F3 (io), 121 IO50PB3F3 (io), 122 IO48NB3F3 (io), 123 IO48PB3F3 (io), 126 IO46NB3F3 (io), 127 IO45NB3F3 (io), 128 IO46PB3F3 (io), 129 IO45PB3F3 (io), 131 IO44NB2F2 (io), 132 IO43NB2F2 (io), 133 IO44PB2F2 (io), 134 IO43PB2F2 (io), 137 IO41NB2F2 (io), 138 IO41PB2F2 (io), 139 IO39NB2F2 (io), 140 IO39PB2F2 (io), 141 IO40PB2F2 (io), 144 IO34NB2F2 (io), 145 IO34PB2F2 (io), 146 IO32NB2F2 (io), 147 IO32PB2F2 (io), 148 IO31PB2F2 (io), 151 IO29NB2F2 (io), 152 IO30NB2F2 (io), 153 IO29PB2F2 (io), 154 IO30PB2F2 (io), 159 IO27NB1F1 (io), 160 IO27PB1F1 (io), 161 IO26NB1F1 (io), 162 IO26PB1F1 (io), 165 IO24NB1F1 (io), 166 IO24PB1F1 (io), 170 IO16NB1F1 (io), 171 IO16PB1F1 (io), 174 IO15NB1F1/HCLKDN (io), 175 IO15PB1F1/HCLKDP (io), 180 IO14NB1F1/HCLKCN (io), 181 IO14PB1F1/HCLKCP (io), 185 IO13NB0F0/HCLKBN (io), 186 IO13PB0F0/HCLKBP (io), 191 IO12NB0F0/HCLKAN (io), 192 IO12PB0F0/HCLKAP (io), 197 IO02NB0F0 (io), 198 IO03NB0F0 (io), 199 IO03PB0F0 (io)
part B pins: 1 VCCDA (power), 2 VCCA (power), 8 VCCIB7 (power), 14 VCCA (power), 20 VCCIB7 (power), 26 VCCDA (power), 31 VCCIB6 (power), 38 VCCA (power), 45 VCCIB6 (power), 52 VCCA (power), 53 VCCDA (power), 58 VCCIB5 (power), 63 VCCDA (power), 64 VCCA (power), 68 VCCIB5 (power), 78 VCCDA (power), 79 PRD (out), 80 PRC (out), 89 VCCIB4 (power), 93 VCCA (power), 95 VCCDA (power), 98 VCCIB4 (power), 105 VCCDA (power), 112 VCCIB3 (power), 118 VCCA (power), 124 VCCIB3 (power), 130 VCCDA (power), 135 VCCIB2 (power), 142 VCCA (power), 149 VCCIB2 (power), 156 VCCA (power), 157 VCCDA (power), 158 VPUMP (power), 163 VCCIB1 (power), 167 VCCDA (power), 168 VCCA (power), 172 VCCIB1 (power), 182 VCCDA (power), 183 PRB (out), 184 PRA (out), 193 VCCIB0 (power), 195 VCCA (power), 200 VCCIB0 (power), 202 VCCDA (power), 203 TDO (hiz), 204 TDI (in), 205 TCK (in), 206 TMS (in), 207 ~{TRST} (in)
part C pins: 9 GND (power), 15 GND (power), 21 GND (power), 32 GND (power), 39 GND (power), 46 GND (power), 51 GND (power), 59 GND (power), 65 GND (power), 69 GND (power), 90 GND (power), 94 GND (power), 99 GND (power), 104 GND (power), 113 GND (power), 119 GND (power), 125 GND (power), 136 GND (power), 143 GND (power), 150 GND (power), 155 GND (power), 164 GND (power), 169 GND (power), 173 GND (power), 194 GND (power), 196 GND (power), 201 GND (power), 208 GND (power)
part D pins: 72 NC, 73 NC, 74 NC, 75 NC, 83 NC, 84 NC, 85 NC, 86 NC, 176 NC, 177 NC, 178 NC, 179 NC, 187 NC, 188 NC, 189 NC, 190 NC
part A text: Bank 0; Bank 1; Bank 7; Bank 2; Bank 6; Bank 3; Bank 5; Bank 4

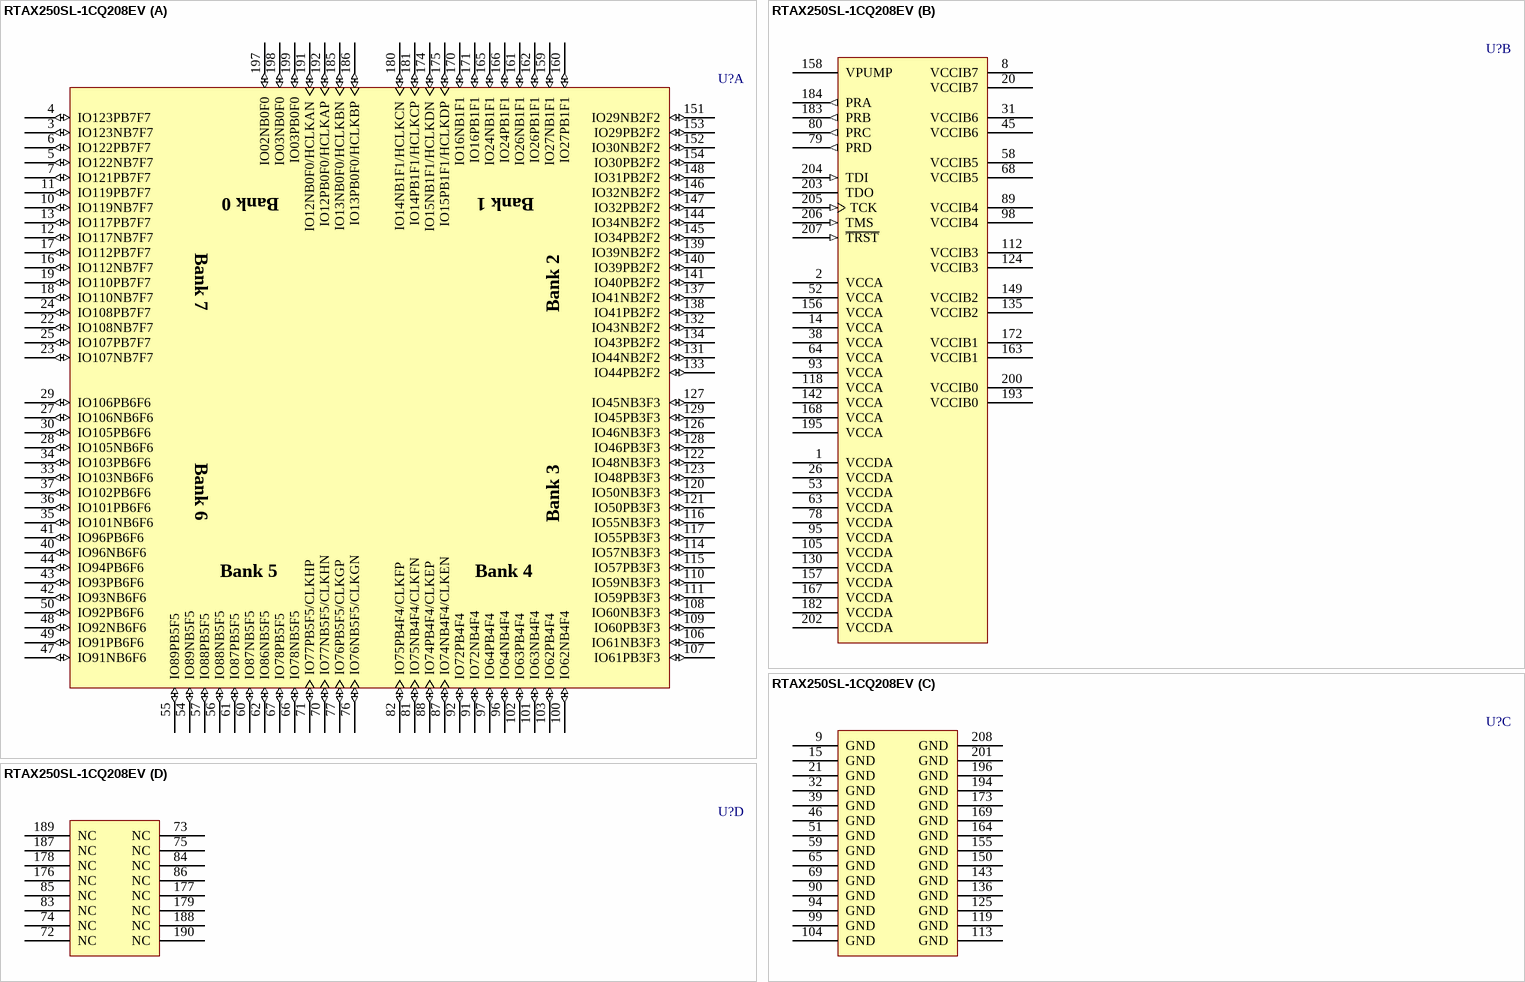
[diagram p40: symbol RTAX250SL-1CQ208EV]

## RTAX250SL-1CQ208EV
designator U?
RTAX-SL RadTolerant FPGA, 250K Equivalent System Gates, Low-Power, 208-Pin CQFP, Speed Grade 1, Class V; Published: 11-Dec-2009; DatasheetVersion: v5.4, May-2009; PackageVersion: ver11.2, Nov-2009; PackageReference: CQ208; Publisher: Altium Limited; PackageDescription: 208-Pin Ceramic Quad Flat Pack (CQFP); ComponentLink1Description: RTAX-S/SL RadTolerant Datasheet; ComponentLink1URL: http://www.actel.com/documents/RTAXS_DS.pdf; ComponentLink2Description: Package Mechanical Drawings; ComponentLink2URL: http://www.actel.com/documents/PckgMechDrwngs.pdf; ComponentLink3Description: RTAX-S/SL RadTolerant Documents; ComponentLink3URL: http://www.actel.com/products/milaero/rtaxs/docs.aspx; ComponentLink4Description: Actel.com Home; ComponentLink4URL: http://www.actel.com/
footprint CQ208_N (CQFP, 208-Leads, Body 29x29mm; Pitch 0.5mm, Gullwing Leadform, IPC Medium Density)
footprint CQ208_L (CQFP, 208-Leads, Body 29x29mm; Pitch 0.5mm, Gullwing Leadform, IPC High Density)
footprint CQ208_M (CQFP, 208-Leads, Body 29x29mm; Pitch 0.5mm, Gullwing Leadform, IPC Low Density)
part A pins: 3 IO123NB7F7 (io), 4 IO123PB7F7 (io), 5 IO122NB7F7 (io), 6 IO122PB7F7 (io), 7 IO121PB7F7 (io), 10 IO119NB7F7 (io), 11 IO119PB7F7 (io), 12 IO117NB7F7 (io), 13 IO117PB7F7 (io), 16 IO112NB7F7 (io), 17 IO112PB7F7 (io), 18 IO110NB7F7 (io), 19 IO110PB7F7 (io), 22 IO108NB7F7 (io), 23 IO107NB7F7 (io), 24 IO108PB7F7 (io), 25 IO107PB7F7 (io), 27 IO106NB6F6 (io), 28 IO105NB6F6 (io), 29 IO106PB6F6 (io), 30 IO105PB6F6 (io), 33 IO103NB6F6 (io), 34 IO103PB6F6 (io), 35 IO101NB6F6 (io), 36 IO101PB6F6 (io), 37 IO102PB6F6 (io), 40 IO96NB6F6 (io), 41 IO96PB6F6 (io), 42 IO93NB6F6 (io), 43 IO93PB6F6 (io), 44 IO94PB6F6 (io), 47 IO91NB6F6 (io), 48 IO92NB6F6 (io), 49 IO91PB6F6 (io), 50 IO92PB6F6 (io), 54 IO89NB5F5 (io), 55 IO89PB5F5 (io), 56 IO88NB5F5 (io), 57 IO88PB5F5 (io), 60 IO87NB5F5 (io), 61 IO87PB5F5 (io), 62 IO86NB5F5 (io), 66 IO78NB5F5 (io), 67 IO78PB5F5 (io), 70 IO77NB5F5/CLKHN (io), 71 IO77PB5F5/CLKHP (io), 76 IO76NB5F5/CLKGN (io), 77 IO76PB5F5/CLKGP (io), 81 IO75NB4F4/CLKFN (io), 82 IO75PB4F4/CLKFP (io), 87 IO74NB4F4/CLKEN (io), 88 IO74PB4F4/CLKEP (io), 91 IO72NB4F4 (io), 92 IO72PB4F4 (io), 96 IO64NB4F4 (io), 97 IO64PB4F4 (io), 100 IO62NB4F4 (io), 101 IO63NB4F4 (io), 102 IO63PB4F4 (io), 103 IO62PB4F4 (io), 106 IO61NB3F3 (io), 107 IO61PB3F3 (io), 108 IO60NB3F3 (io), 109 IO60PB3F3 (io), 110 IO59NB3F3 (io), 111 IO59PB3F3 (io), 114 IO57NB3F3 (io), 115 IO57PB3F3 (io), 116 IO55NB3F3 (io), 117 IO55PB3F3 (io), 120 IO50NB3F3 (io), 121 IO50PB3F3 (io), 122 IO48NB3F3 (io), 123 IO48PB3F3 (io), 126 IO46NB3F3 (io), 127 IO45NB3F3 (io), 128 IO46PB3F3 (io), 129 IO45PB3F3 (io), 131 IO44NB2F2 (io), 132 IO43NB2F2 (io), 133 IO44PB2F2 (io), 134 IO43PB2F2 (io), 137 IO41NB2F2 (io), 138 IO41PB2F2 (io), 139 IO39NB2F2 (io), 140 IO39PB2F2 (io), 141 IO40PB2F2 (io), 144 IO34NB2F2 (io), 145 IO34PB2F2 (io), 146 IO32NB2F2 (io), 147 IO32PB2F2 (io), 148 IO31PB2F2 (io), 151 IO29NB2F2 (io), 152 IO30NB2F2 (io), 153 IO29PB2F2 (io), 154 IO30PB2F2 (io), 159 IO27NB1F1 (io), 160 IO27PB1F1 (io), 161 IO26NB1F1 (io), 162 IO26PB1F1 (io), 165 IO24NB1F1 (io), 166 IO24PB1F1 (io), 170 IO16NB1F1 (io), 171 IO16PB1F1 (io), 174 IO15NB1F1/HCLKDN (io), 175 IO15PB1F1/HCLKDP (io), 180 IO14NB1F1/HCLKCN (io), 181 IO14PB1F1/HCLKCP (io), 185 IO13NB0F0/HCLKBN (io), 186 IO13PB0F0/HCLKBP (io), 191 IO12NB0F0/HCLKAN (io), 192 IO12PB0F0/HCLKAP (io), 197 IO02NB0F0 (io), 198 IO03NB0F0 (io), 199 IO03PB0F0 (io)
part B pins: 1 VCCDA (power), 2 VCCA (power), 8 VCCIB7 (power), 14 VCCA (power), 20 VCCIB7 (power), 26 VCCDA (power), 31 VCCIB6 (power), 38 VCCA (power), 45 VCCIB6 (power), 52 VCCA (power), 53 VCCDA (power), 58 VCCIB5 (power), 63 VCCDA (power), 64 VCCA (power), 68 VCCIB5 (power), 78 VCCDA (power), 79 PRD (out), 80 PRC (out), 89 VCCIB4 (power), 93 VCCA (power), 95 VCCDA (power), 98 VCCIB4 (power), 105 VCCDA (power), 112 VCCIB3 (power), 118 VCCA (power), 124 VCCIB3 (power), 130 VCCDA (power), 135 VCCIB2 (power), 142 VCCA (power), 149 VCCIB2 (power), 156 VCCA (power), 157 VCCDA (power), 158 VPUMP (power), 163 VCCIB1 (power), 167 VCCDA (power), 168 VCCA (power), 172 VCCIB1 (power), 182 VCCDA (power), 183 PRB (out), 184 PRA (out), 193 VCCIB0 (power), 195 VCCA (power), 200 VCCIB0 (power), 202 VCCDA (power), 203 TDO (hiz), 204 TDI (in), 205 TCK (in), 206 TMS (in), 207 ~{TRST} (in)
part C pins: 9 GND (power), 15 GND (power), 21 GND (power), 32 GND (power), 39 GND (power), 46 GND (power), 51 GND (power), 59 GND (power), 65 GND (power), 69 GND (power), 90 GND (power), 94 GND (power), 99 GND (power), 104 GND (power), 113 GND (power), 119 GND (power), 125 GND (power), 136 GND (power), 143 GND (power), 150 GND (power), 155 GND (power), 164 GND (power), 169 GND (power), 173 GND (power), 194 GND (power), 196 GND (power), 201 GND (power), 208 GND (power)
part D pins: 72 NC, 73 NC, 74 NC, 75 NC, 83 NC, 84 NC, 85 NC, 86 NC, 176 NC, 177 NC, 178 NC, 179 NC, 187 NC, 188 NC, 189 NC, 190 NC
part A text: Bank 0; Bank 1; Bank 7; Bank 2; Bank 6; Bank 3; Bank 5; Bank 4

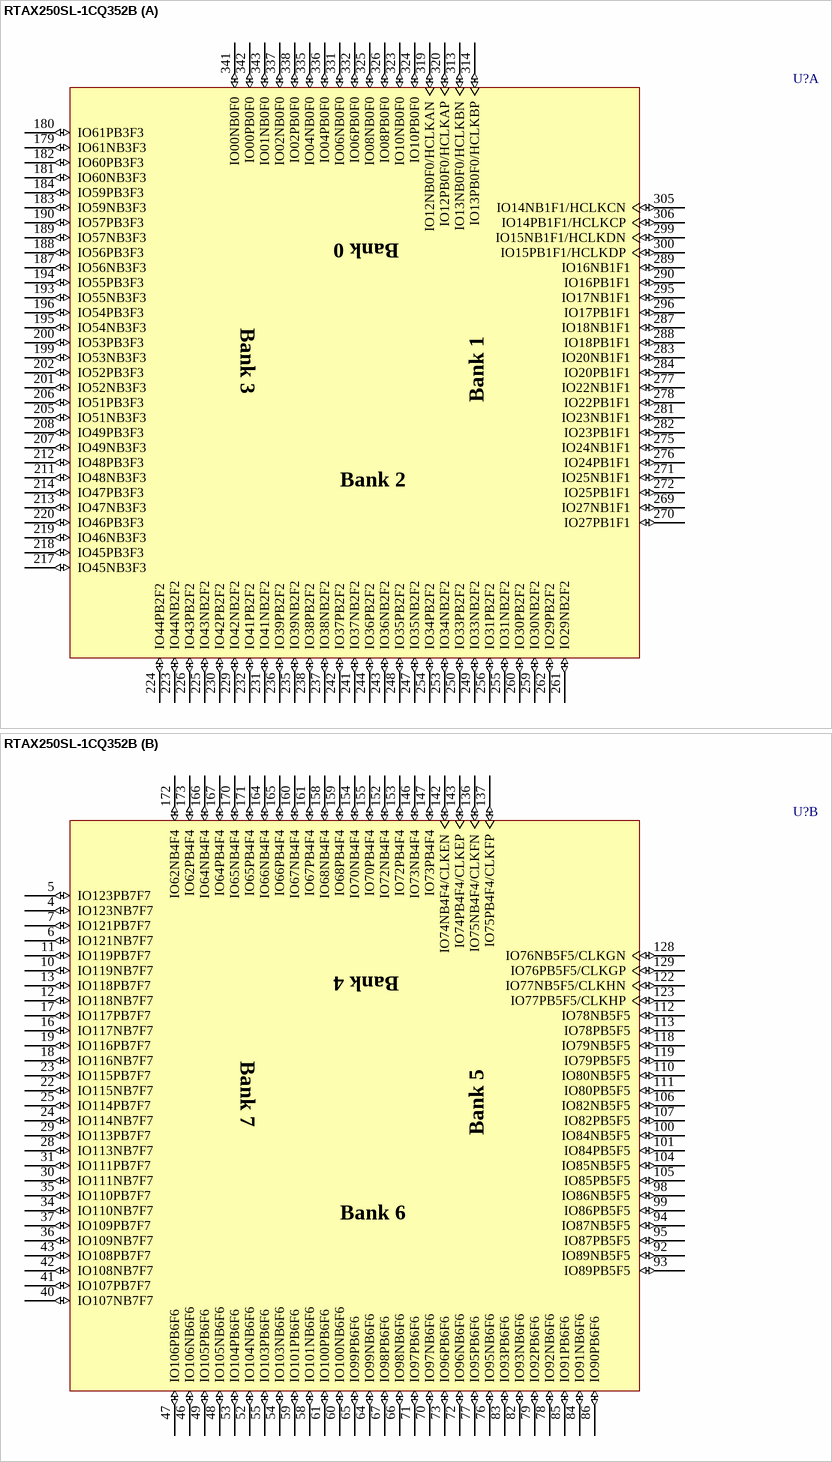
[diagram p41: symbol RTAX250SL-1CQ352B]

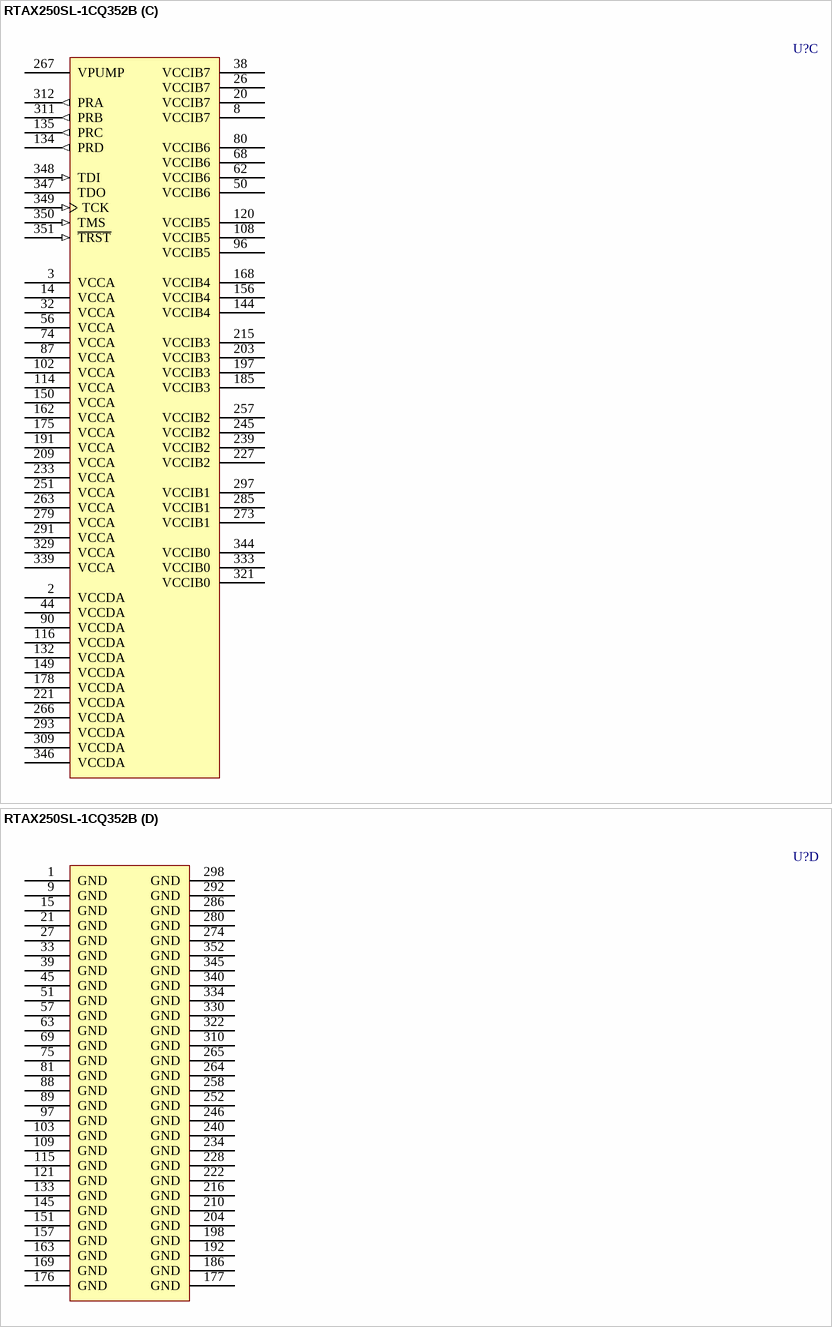
[diagram p42: symbol RTAX250SL-1CQ352B]

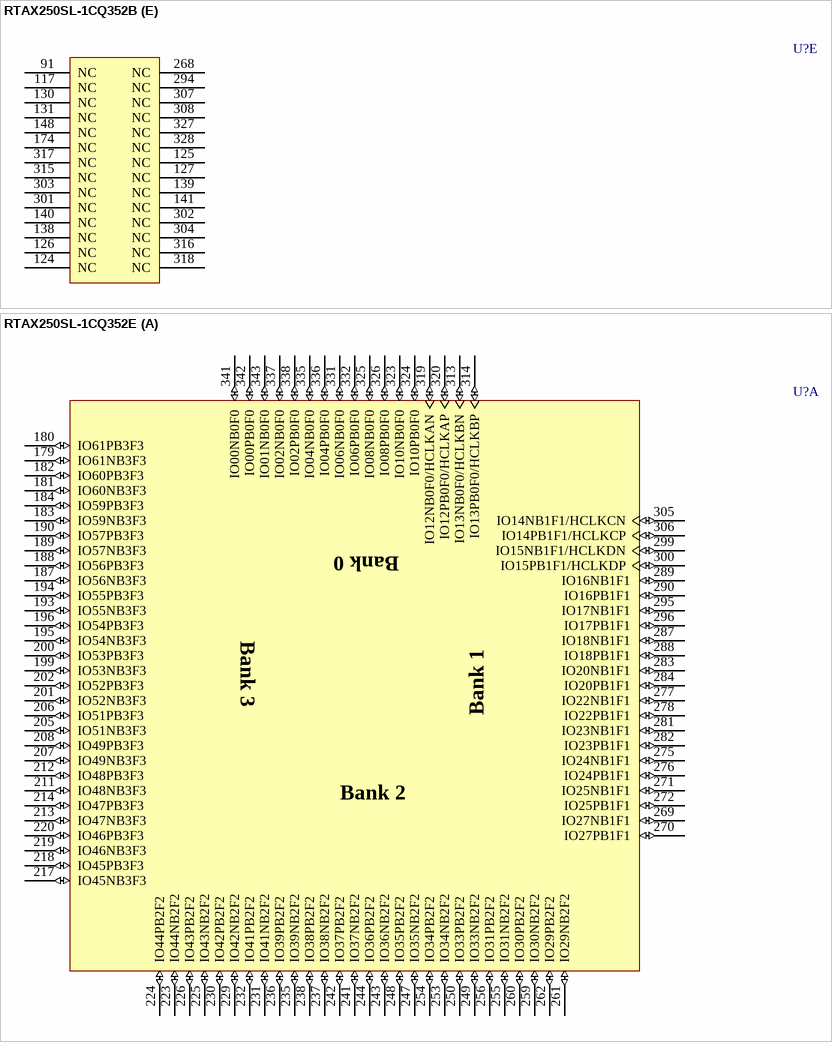
[diagram p43: symbols RTAX250SL-1CQ352B to RTAX250SL-1CQ352E]